# Altium schematic symbol library Atlan.SchLib: 199 symbols
Pins are listed as number, name and electrical type; pins without a type are passive.

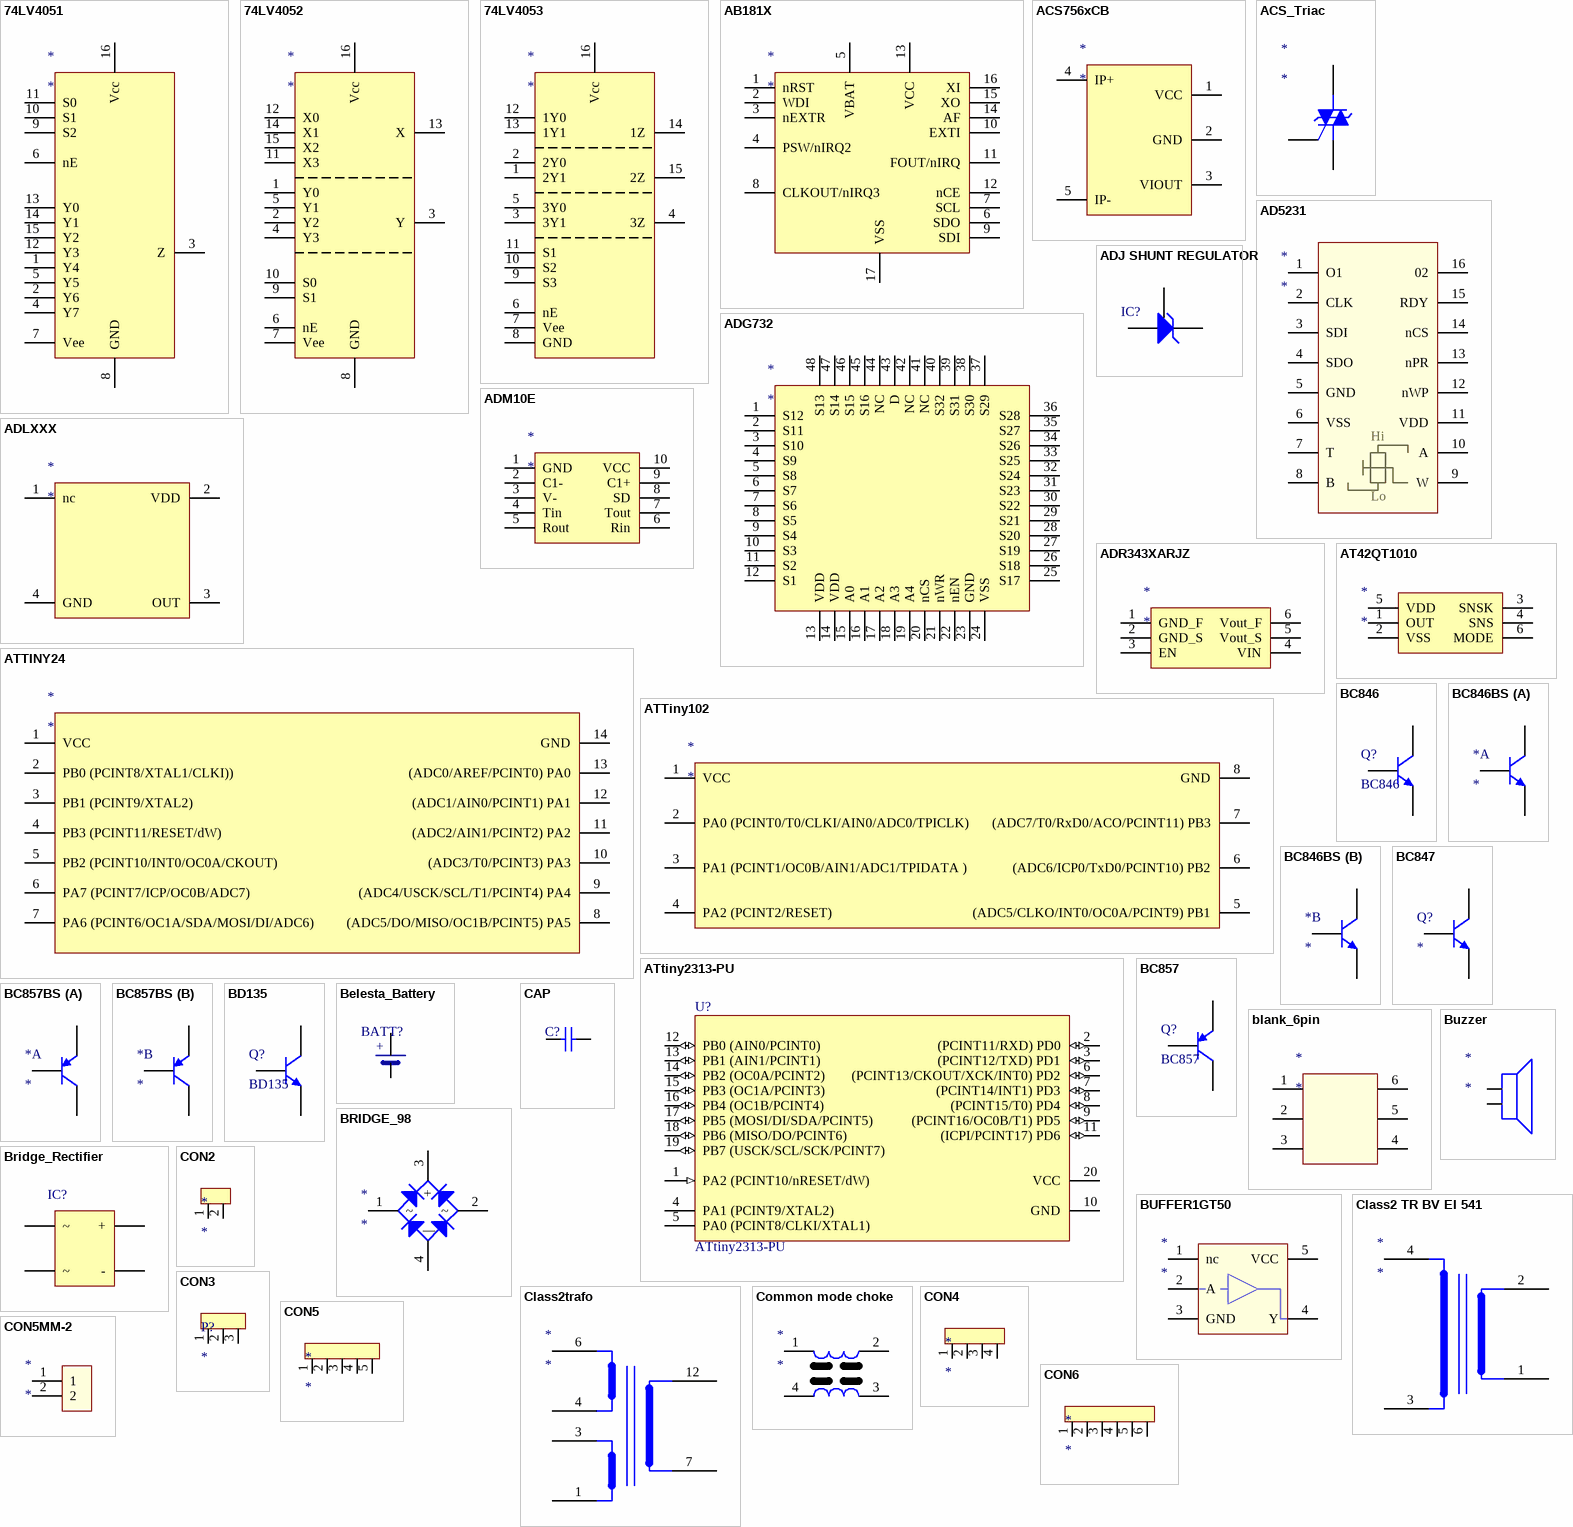
[diagram p0: symbols 74LV4051 to CON6]

## 74LV4051
designator *
footprint TSSOP16
pins: 1 Y4, 2 Y6, 3 Z, 4 Y7, 5 Y5, 6 nE, 7 Vee, 8 GND, 9 S2, 10 S1, 11 S0, 12 Y3, 13 Y0, 14 Y1, 15 Y2, 16 Vcc

## 74LV4052
designator *
footprint TSSOP65P640X120-16N (TSSOP, 16 Leads, Body 5.1x4.5mm (max), Pitch 0.65mm, IPC Medium Density)
pins: 1 Y0, 2 Y2, 3 Y, 4 Y3, 5 Y1, 6 nE, 7 Vee, 8 GND, 9 S1, 10 S0, 11 X3, 12 X0, 13 X, 14 X1, 15 X2, 16 Vcc

## 74LV4053
designator *
footprint TSSOP65P640X120-16N (TSSOP, 16 Leads, Body 5.1x4.5mm (max), Pitch 0.65mm, IPC Medium Density)
pins: 1 2Y1, 2 2Y0, 3 3Y1, 4 3Z, 5 3Y0, 6 nE, 7 Vee, 8 GND, 9 S3, 10 S2, 11 S1, 12 1Y0, 13 1Y1, 14 1Z, 15 2Z, 16 Vcc

## AB181X
designator *
footprint QFN50P300X300X85-16N (QFN, 16-Leads, Body 3,0x3,0mm (max), Pitch 0,50mm, IPC Medium Density)
pins: 1 nRST, 2 WDI, 3 nEXTR, 4 PSW/nIRQ2, 5 VBAT, 6 SDO, 7 SCL, 8 CLKOUT/nIRQ3, 9 SDI, 10 EXTI, 11 FOUT/nIRQ, 12 nCE, 13 VCC, 14 AF, 15 XO, 16 XI, 17 VSS

## ACS756xCB
designator *
footprint CBPPF-5
pins: 1 VCC, 2 GND, 3 VIOUT, 4 IP+, 5 IP-

## ACS_Triac
designator *
footprint TO-220AB
pins: 1 COM, 2 OUT, 3 G

## AD5231
designator *
footprint TSSOP16
pins: 1 O1, 2 CLK, 3 SDI, 4 SDO, 5 GND, 6 VSS, 7 T, 8 B, 9 W, 10 A, 11 VDD, 12 nWP, 13 nPR, 14 nCS, 15 RDY, 16 02
text: Hi; Lo

## ADG732
designator *
footprint TSQFP-48 (TSQFP, 48-Leads, Body 9,0x9,0mm (max), Pitch 0,50mm, IPC Medium Density)
pins: 1 S12, 2 S11, 3 S10, 4 S9, 5 S8, 6 S7, 7 S6, 8 S5, 9 S4, 10 S3, 11 S2, 12 S1, 13 VDD, 14 VDD, 15 A0, 16 A1, 17 A2, 18 A3, 19 A4, 20 nCS, 21 nWR, 22 nEN, 23 GND, 24 VSS, 25 S17, 26 S18, 27 S19, 28 S20, 29 S21, 30 S22, 31 S23, 32 S24, 33 S25, 34 S26, 35 S27, 36 S28, 37 S29, 38 S30, 39 S31, 40 S32, 41 NC, 42 NC, 43 D, 44 NC, 45 S16, 46 S15, 47 S14, 48 S13

## ADJ SHUNT REGULATOR
designator IC?
footprint SOT-23; pin to pad 1>3 3>1
pins: 1 A, 2 REF, 3 K

## ADLXXX
designator *
footprint ULLGA4
pins: 1 nc, 2 VDD, 3 OUT, 4 GND

## ADM10E
designator *
footprint MSOP10
pins: 1 GND, 2 C1-, 3 V-, 4 Tin, 5 Rout, 6 Rin, 7 Tout, 8 SD, 9 C1+, 10 VCC

## ADR343XARJZ
designator *
footprint SMD_SOT23-6
pins: 1 GND_F, 2 GND_S, 3 EN, 4 VIN, 5 Vout_S, 6 Vout_F

## AT42QT1010
designator *
footprint SOT23-6
pins: 1 OUT, 2 VSS, 3 SNSK, 4 SNS, 5 VDD, 6 MODE

## ATTINY24
designator *
footprint DIP-14 (DIP, 14-Pin, Row Spacing 7.62 mm, Pitch 2.54 mm)
pins: 1 VCC, 2 PB0 (PCINT8/XTAL1/CLKI)), 3 PB1 (PCINT9/XTAL2), 4 PB3 (PCINT11/RESET/dW), 5 PB2 (PCINT10/INT0/OC0A/CKOUT), 6 PA7 (PCINT7/ICP/OC0B/ADC7), 7 PA6 (PCINT6/OC1A/SDA/MOSI/DI/ADC6), 8 (ADC5/DO/MISO/OC1B/PCINT5) PA5, 9 (ADC4/USCK/SCL/T1/PCINT4) PA4, 10 (ADC3/T0/PCINT3) PA3, 11 (ADC2/AIN1/PCINT2) PA2, 12 (ADC1/AIN0/PCINT1) PA1, 13 (ADC0/AREF/PCINT0) PA0, 14 GND

## ATTiny102
designator *
footprint SO8
pins: 1 VCC, 2 PA0 (PCINT0/T0/CLKI/AIN0/ADC0/TPICLK), 3 PA1 (PCINT1/OC0B/AIN1/ADC1/TPIDATA ), 4 PA2 (PCINT2/RESET), 5 (ADC5/CLKO/INT0/OC0A/PCINT9) PB1, 6 (ADC6/ICP0/TxD0/PCINT10) PB2, 7 (ADC7/T0/RxD0/ACO/PCINT11) PB3, 8 GND

## ATtiny2313-PU
designator U?
footprint 20S_N (SOIC, 20-Leads, Body 12.8x7.5mm, Pitch 1.27mm, IPC Medium Density)
footprint 20S_L (Footprint not found)
footprint 20S_M (SOIC, 20-Leads, Body 12.8x7.5mm, Pitch 1.27mm, IPC Low Density)
3D model 20S (PCB3D Model)
pins: 1 PA2 (PCINT10/nRESET/dW) (in), 2 (PCINT11/RXD) PD0 (io), 3 (PCINT12/TXD) PD1 (io), 4 PA1 (PCINT9/XTAL2), 5 PA0 (PCINT8/CLKI/XTAL1), 6 (PCINT13/CKOUT/XCK/INT0) PD2 (io), 7 (PCINT14/INT1) PD3 (io), 8 (PCINT15/T0) PD4 (io), 9 (PCINT16/OC0B/T1) PD5 (io), 10 GND (power), 11 (ICPI/PCINT17) PD6 (io), 12 PB0 (AIN0/PCINT0) (io), 13 PB1 (AIN1/PCINT1) (io), 14 PB2 (OC0A/PCINT2) (io), 15 PB3 (OC1A/PCINT3) (io), 16 PB4 (OC1B/PCINT4) (io), 17 PB5 (MOSI/DI/SDA/PCINT5) (io), 18 PB6 (MISO/DO/PCINT6) (io), 19 PB7 (USCK/SCL/SCK/PCINT7) (io), 20 VCC (power)

## BC846
designator Q?
Bipolar (BJT) Single Transistor, General Purpose, NPN, 65 V, 100 MHz, 250 mW, 100 mA, 110 hFE; value: BC846; partnumber: *; properties: Bipolar (BJT) Single Transistor, General Purpose, NPN, 65 V, 100 MHz, 250 mW, 100 mA, 110 hFE; manufacturer: *; farnellCode: *
footprint SOT-23
pins: 1 B, 2 E, 3 C

## BC846BS
designator *
footprint SOT363 (Small outline 2.1mm L x 1.25mm W x 1mm H)
part A pins: 1 E, 2 B, 6 C
part B pins: 3 C, 4 E, 5 B

## BC847
designator Q?
NPN
footprint SOT-23
pins: 1 B, 2 E, 3 C

## BC857
designator Q?
PNP; value: BC857; partnumber: *; properties: *; manufacturer: *; farnellCode: *
footprint SOT-23
pins: 1 B, 2 E, 3 C

## BC857BS
designator *
footprint SOT-363
part A pins: 1 E, 2 B, 6 C
part B pins: 3 C, 4 E, 5 B

## BD135
designator Q?
manufacturer: MULTICOMP; properties: Bipolar (BJT) Single Transistor, General Purpose, NPN, 45 V, 12.5 W, 1 A, 40 hFE; value: BD135; partnumber: BD135; farnellCode: 1574347
footprint TO-225
pins: 1 E, 2 C, 3 B

## Belesta_Battery
designator BATT?
manufacturer: EEMB
footprint BELESTA_BATTERY
pins: 1 +, 2 +

## blank_6pin
designator *
pins: 1, 2, 3, 4, 5, 6

## BRIDGE_98
designator *
footprint BRIDGE_98 (Bridge)
footprint Bridge30x20
footprint KBP-4
pins: 1 ~, 2 ~, 3 +, 4 |

## Bridge_Rectifier
designator IC?
Bridge Rectifier; farnellCode: *
footprint BRIDGE_GBU
pins: 1 + (power), 2 ~ (power), 3 ~ (power), 4 - (power)

## BUFFER1GT50
designator *
footprint SOT23-5
pins: 1 nc, 2 A, 3 GND, 4 Y, 5 VCC

## Buzzer
designator *
footprint BUZZER_MCKPX-G1205A-3700
pins: 1, 2

## CAP
designator C?
Capacitor; properties: capacitor; farnellCode: *
footprint SMD_RC0402
footprint SMD_RC0603
footprint SMD_RC0805
footprint SMD_RC1210
footprint SMD_RC1206
footprint CAP_F_15.24mm
footprint PX2CAP37.5
pins: 1, 2

## Class2 TR BV EI 541
designator *
footprint BV EI 541
pins: 1, 2, 3, 4

## Class2trafo
designator *
footprint TRAFOCLASS2
pins: 1, 3, 4, 6, 7, 12

## Common mode choke
designator *
footprint ChokeTHT (common mode choke)
pins: 1, 2, 3, 4

## CON2
designator *
footprint WAGO2PIN
footprint BATCON2
footprint XHP-2
footprint WR-MPC4-2 (Connector WR-MPC4 Series)
footprint CTB932HD-2
pins: 1, 2

## CON3
designator P?
value: *; partnumber: *; propertis: *; manufacturer: *
footprint XA3PIN
footprint WAGO3PIN
footprint XHP-3
footprint SR_BTS-3
footprint CON_TERMINAL_BLOCK_3WAY (Wire-To-Board Terminal Block, 5.08 mm, 3 Ways, 26 AWG, 12 AWG, Screw)
pins: 1, 2, 3

## CON4
designator *
footprint XA4PIN
footprint EDGECON2
footprint XHP-4
footprint WR-MPC4-4 (Connector WR-MPC4 Series)
footprint CTB932HD-4
footprint ZR-SM4A
footprint S4B-XH-A (Side entry connector)
pins: 1, 2, 3, 4

## CON5
designator *
footprint XA5PIN
footprint WAGO5PIN
footprint XHP-5
footprint CTB932HD-5
footprint S5B-ZR
pins: 1, 2, 3, 4, 5

## CON5MM-2
designator *
footprint CON5MM-2
pins: 1, 2

## CON6
designator *
footprint XA6PIN
footprint EDGECON_3
footprint XHP-6
footprint 2DG066
footprint WR-MPC4-6 (Connector WR-MPC4 Series)
pins: 1, 2, 3, 4, 5, 6

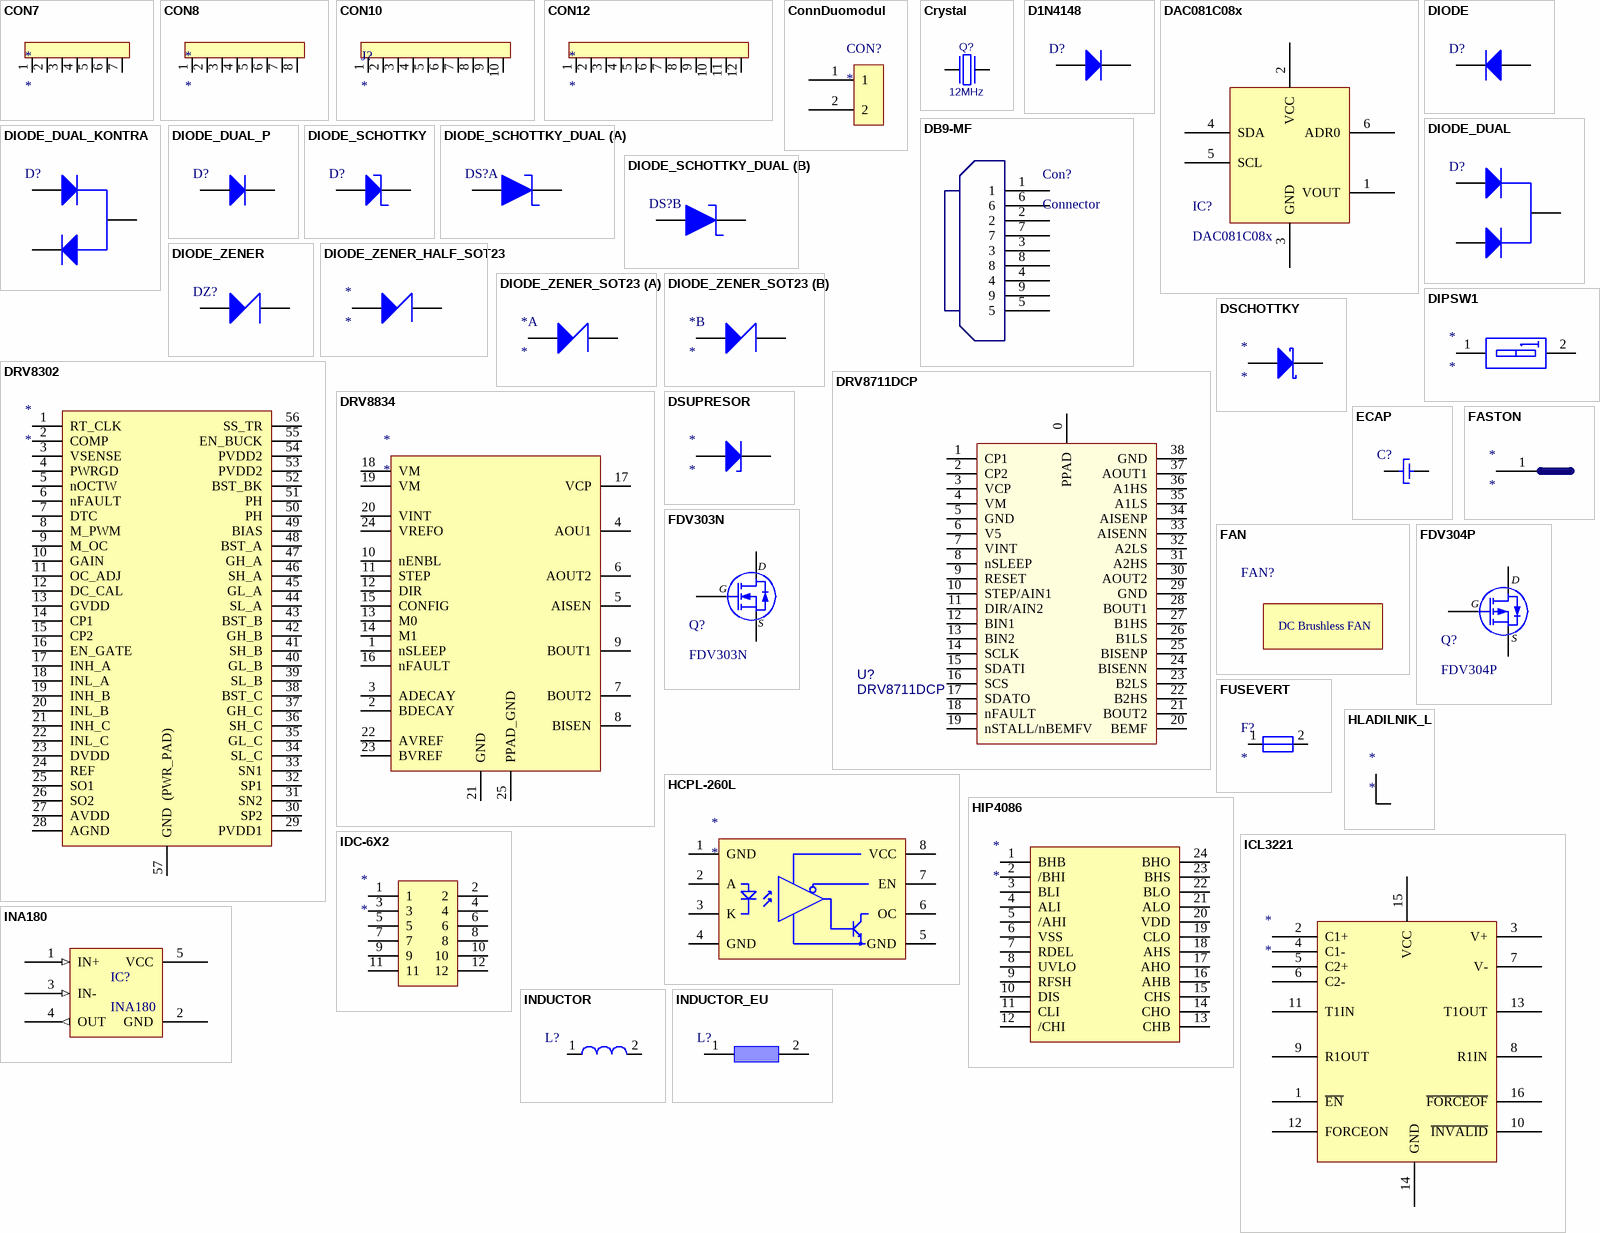
[diagram p1: symbols CON7 to INDUCTOR_EU]

## CON7
designator *
footprint XHP-7
pins: 1, 2, 3, 4, 5, 6, 7

## CON8
designator *
footprint XA8PIN
footprint XHP-8
pins: 1, 2, 3, 4, 5, 6, 7, 8

## CON10
designator J?
value: *; partnumber: *; properties: *; manufacturer: *; farnellCode: *
footprint XHP-10
footprint WR-MPC4-10 (Connector WR-MPC4 Series)
footprint CON_PHONEX_10_WAY
pins: 1, 2, 3, 4, 5, 6, 7, 8, 9, 10

## CON12
designator *
footprint WR-MPC4-12 (Connector WR-MPC4 Series)
footprint CTB932HD-12
pins: 1, 2, 3, 4, 5, 6, 7, 8, 9, 10, 11, 12

## ConnDuomodul
designator CON?
Connector
footprint ConRas254
pins: 1, 2

## Crystal
designator Q?, comment 12MHz
Crystal; Value: 12MHz
footprint Crystal_HC49 (Crystall SMD short HC49)
footprint Crystal_THT_small_lying_down
footprint Crystal_THT_short (Crystal short THT)
footprint Crystal_THT_tall (Crystal tall THT)
footprint QABM3
pins: 1, 2

## D1N4148
designator D?
Diode
footprint MICROMELF (Diode)
footprint DO-214AC (Diode)
pins: 1 K, 2 A

## DAC081C08x
designator IC?
8-Bit DAC; value: DAC081C08x; partnumber: *
footprint SOT23-6
pins: 1 VOUT (power), 2 VCC (power), 3 GND (power), 4 SDA (oc), 5 SCL (oc), 6 ADR0

## DB9-MF
designator Con?, comment Connector
footprint DB9-F
footprint DB9-M
pins: 1, 2, 3, 4, 5, 6, 7, 8, 9

## DIODE
designator D?
farnellCode: *
footprint DO-213AB (MELF Diode, 2-Leads, Body 6,0x2,5mm, IPC Medium Density)
footprint Diode, NSR1020MW2T1G
footprint DO-213AB (MELF Diode, 2-Leads, Body 6,0x2,5mm, IPC Medium Density)
footprint DO-214AA (JEDEC DO214 variation AA. SMB)
footprint DO-214AB (JEDEC DO214 variation AB. SMC)
footprint DO-214AC (Diode)
footprint DO-214AC - duplicate (JEDEC DO214 variation AC. SMA)
footprint DIODE_VERT
footprint DPAK
pins: 1, 2

## DIODE_DUAL
designator D?
footprint TO-263
footprint SOT-23; pin to pad 2>3 3>2
pins: 1, 2, 3

## DIODE_DUAL_KONTRA
designator D?
footprint TO-263
footprint SOT-23; pin to pad 2>3 3>2
pins: 1, 2, 3

## DIODE_DUAL_P
designator D?
footprint TO-263
footprint TO-263AB
footprint TO-263AB2PIN
pins: 1, 2, 3

## DIODE_SCHOTTKY
designator D?
footprint DO-214AA (JEDEC DO214 variation AA. SMB)
pins: 1 K, 2 A

## DIODE_SCHOTTKY_DUAL
designator DS?
footprint SOT-23
part A pins: 1 K, 3 A
part B pins: 2 K, 3 A

## DIODE_ZENER
designator DZ?
footprint Diode, NSR1020MW2T1G
footprint DO-214AA (JEDEC DO214 variation AA. SMB)
footprint DO-214AB (JEDEC DO214 variation AB. SMC)
footprint DO-214AC - duplicate (JEDEC DO214 variation AC. SMA)
pins: 1 K, 2 A

## DIODE_ZENER_HALF_SOT23
designator *
footprint SOT-23
pins: 1 K, 3 A

## DIODE_ZENER_SOT23
designator *
footprint SOT-23
part A pins: 1 K, 3 A
part B pins: 2 K, 3 A

## DIPSW1
designator *
footprint DIPSW1
pins: 1 A1, 2 B1

## DRV8302
designator *
footprint HTSSOP-56 (TSSOP, 56-Leads, Body 14,1x6,2mm (max), Pitch 0,50mm, IPC Medium Density)
pins: 1 RT_CLK, 2 COMP, 3 VSENSE, 4 PWRGD, 5 nOCTW, 6 nFAULT, 7 DTC, 8 M_PWM, 9 M_OC, 10 GAIN, 11 OC_ADJ, 12 DC_CAL, 13 GVDD, 14 CP1, 15 CP2, 16 EN_GATE, 17 INH_A, 18 INL_A, 19 INH_B, 20 INL_B, 21 INH_C, 22 INL_C, 23 DVDD, 24 REF, 25 SO1, 26 SO2, 27 AVDD, 28 AGND, 29 PVDD1, 30 SP2, 31 SN2, 32 SP1, 33 SN1, 34 SL_C, 35 GL_C, 36 SH_C, 37 GH_C, 38 BST_C, 39 SL_B, 40 GL_B, 41 SH_B, 42 GH_B, 43 BST_B, 44 SL_A, 45 GL_A, 46 SH_A, 47 GH_A, 48 BST_A, 49 BIAS, 50 PH, 51 PH, 52 BST_BK, 53 PVDD2, 54 PVDD2, 55 EN_BUCK, 56 SS_TR, 57 GND  (PWR_PAD)

## DRV8711DCP
designator U?
Stepper Motor Pre-Driver with On-Chip 1/256 Micro-Stepping Indexer and Stall Detect; Manufacturer: Texas Instruments; SymbolCreator: a0273408; CompType: Used in some BOM reports.  Useful for finding later.; U/M: EA, IN, or GM; SymbolVersion: 2013-07-23; MountType: SMT; RoHS: Y; PartNumber: DRV8711DCP; PackageReference: DCP; ComponentLink1Description: Datasheet Link; Alternate PartNumber: -; Alternate Manufacturer: -
footprint R-PDSO-G38 (PowerPAD Plastic Small-Outline Package)
pins: 0 PPAD, 1 CP1, 2 CP2, 3 VCP, 4 VM, 5 GND, 6 V5, 7 VINT, 8 nSLEEP, 9 RESET, 10 STEP/AIN1, 11 DIR/AIN2, 12 BIN1, 13 BIN2, 14 SCLK, 15 SDATI, 16 SCS, 17 SDATO, 18 nFAULT, 19 nSTALL/nBEMFV, 20 BEMF, 21 BOUT2, 22 B2HS, 23 B2LS, 24 BISENN, 25 BISENP, 26 B1LS, 27 B1HS, 28 BOUT1, 29 GND, 30 AOUT2, 31 A2HS, 32 A2LS, 33 AISENN, 34 AISENP, 35 A1LS, 36 A1HS, 37 AOUT1, 38 GND

## DRV8834
designator *
footprint HTSSOP24 (IC)
pins: 1 nSLEEP, 2 BDECAY, 3 ADECAY, 4 AOU1, 5 AISEN, 6 AOUT2, 7 BOUT2, 8 BISEN, 9 BOUT1, 10 nENBL, 11 STEP, 12 DIR, 13 M0, 14 M1, 15 CONFIG, 16 nFAULT, 17 VCP, 18 VM, 19 VM, 20 VINT, 21 GND, 22 AVREF, 23 BVREF, 24 VREFO, 25 PPAD_GND

## DSCHOTTKY
designator *
footprint SMBC
footprint SMB50
footprint DO-214AA (JEDEC DO214 variation AA. SMB)
footprint DO-214AC - duplicate (JEDEC DO214 variation AC. SMA)
footprint TO-277A
footprint POWERFLAT33
pins: 1 K, 2 A

## DSUPRESOR
designator *
footprint SMB50
footprint DO-214AA (JEDEC DO214 variation AA. SMB)
pins: 1, 2

## ECAP
designator C?
footprint ECAP10X5 (Elcap)
footprint ECAP10X5 (Elcap)
footprint ECAP_5x11 Vertical (Elcap)
footprint ECAP8X5 (Elcap)
footprint ECAP_ELEC_SIZE_E (Capacitor, polarized, aluminum can; 8.0x6.2mm DxH)
footprint CAPCASE-V
footprint CAPAL120X5
footprint CAPAL80X3
footprint ECAP6.3X2.5 (Elcap)
pins: 1, 2

## FAN
designator FAN?
DC Brushless Fan
text: DC Brushless FAN

## FASTON
designator *
footprint FASTON_4.8x0.8
pins: 1

## FDV303N
designator Q?
N-Channel MOSFET; manufacturer: ON SEMICONDUCTOR; properties: MOSFET Transistor, N Channel, 680 mA, 25 V, 0.33 ohm, 4.5 V, 800 mV; value: FDV303N; partnumber: FDV303N
footprint SOT-23
pins: 1 G, 2 S, 3 D

## FDV304P
designator Q?
P-Channel MOSFET; manufacturer: ON SEMICONDUCTOR; properties: MOSFET Transistor, P Channel, -460 mA, -25 V, 1.22 ohm, 2.7 V, -860 mV; value: FDV304P; partnumber: FDV304P
footprint SOT-23
pins: 1 G, 2 S, 3 D

## FUSEVERT
designator F?
FUSE
footprint FUSEVERT
footprint FUSE_USI_1206
footprint FUSEPCB (F?)
footprint FUSEEXT
footprint MINIFHOLD (Mini fuse holder)
footprint OMNIBLOCK
pins: 1, 2

## HCPL-260L
designator *
footprint SO8
pins: 1 GND, 2 A, 3 K, 4 GND, 5 GND, 6 OC, 7 EN, 8 VCC

## HIP4086
designator *
footprint SOIC-24W (SOIC, 24-Leads, Body 15.4x7.5mm, Pitch 1.27mm, IPC High Density)
pins: 1 BHB, 2 /BHI, 3 BLI, 4 ALI, 5 /AHI, 6 VSS, 7 RDEL, 8 UVLO, 9 RFSH, 10 DIS, 11 CLI, 12 /CHI, 13 CHB, 14 CHO, 15 CHS, 16 AHB, 17 AHO, 18 AHS, 19 CLO, 20 VDD, 21 ALO, 22 BLO, 23 BHS, 24 BHO

## HLADILNIK_L
designator *
footprint HLADILNIK_L

## ICL3221
designator *
footprint TSSOP16
pins: 1 ~{EN}, 2 C1+, 3 V+, 4 C1-, 5 C2+, 6 C2-, 7 V-, 8 R1IN, 9 R1OUT, 10 ~{INVALID}, 11 T1IN, 12 FORCEON, 13 T1OUT, 14 GND, 15 VCC, 16 ~{FORCEOF}

## IDC-6X2
designator *
footprint IDC-6X2
pins: 1, 2, 3, 4, 5, 6, 7, 8, 9, 10, 11, 12

## INA180
designator IC?
Current sense amplifier; value: INA180
footprint SOT23-5
pins: 1 IN+ (in), 2 GND (power), 3 IN- (in), 4 OUT (out), 5 VCC (power)

## INDUCTOR
designator L?
footprint LCM45
footprint L_7.6mm x 7.6mm
footprint Induct_200 (Inductor)
footprint IND_LPS3314 (Inductor)
footprint IND322522 (Inductor)
footprint SDR1006
footprint SDR0302
footprint MSS1038
footprint SRR1208
footprint SMD_RC0603
footprint SMD_RC0805
footprint SMD_RC1206
footprint SRN8040
footprint IND_SRR4038 (Shielded Power Inductor, Body 4.8x4.8x3.8mm)
footprint SRU1048
footprint SRU1048
footprint WE-TPC
footprint SDR0805
footprint SRR1206
pins: 1, 2

## INDUCTOR_EU
designator L?
footprint LCM45
footprint L_7.6mm x 7.6mm
footprint Induct_200 (Inductor)
footprint IND_LPS3314 (Inductor)
footprint IND322522 (Inductor)
footprint SDR1006
footprint SDR0302
footprint MSS1038
footprint SRR1208
footprint SMD_RC0603
footprint SMD_RC0805
footprint SMD_RC1206
footprint SRN8040
footprint IND_SRR4038 (Shielded Power Inductor, Body 4.8x4.8x3.8mm)
footprint SRU1048
footprint SRU1048
footprint WE-TPC
footprint SDR0805
footprint SRR1206
pins: 1, 2

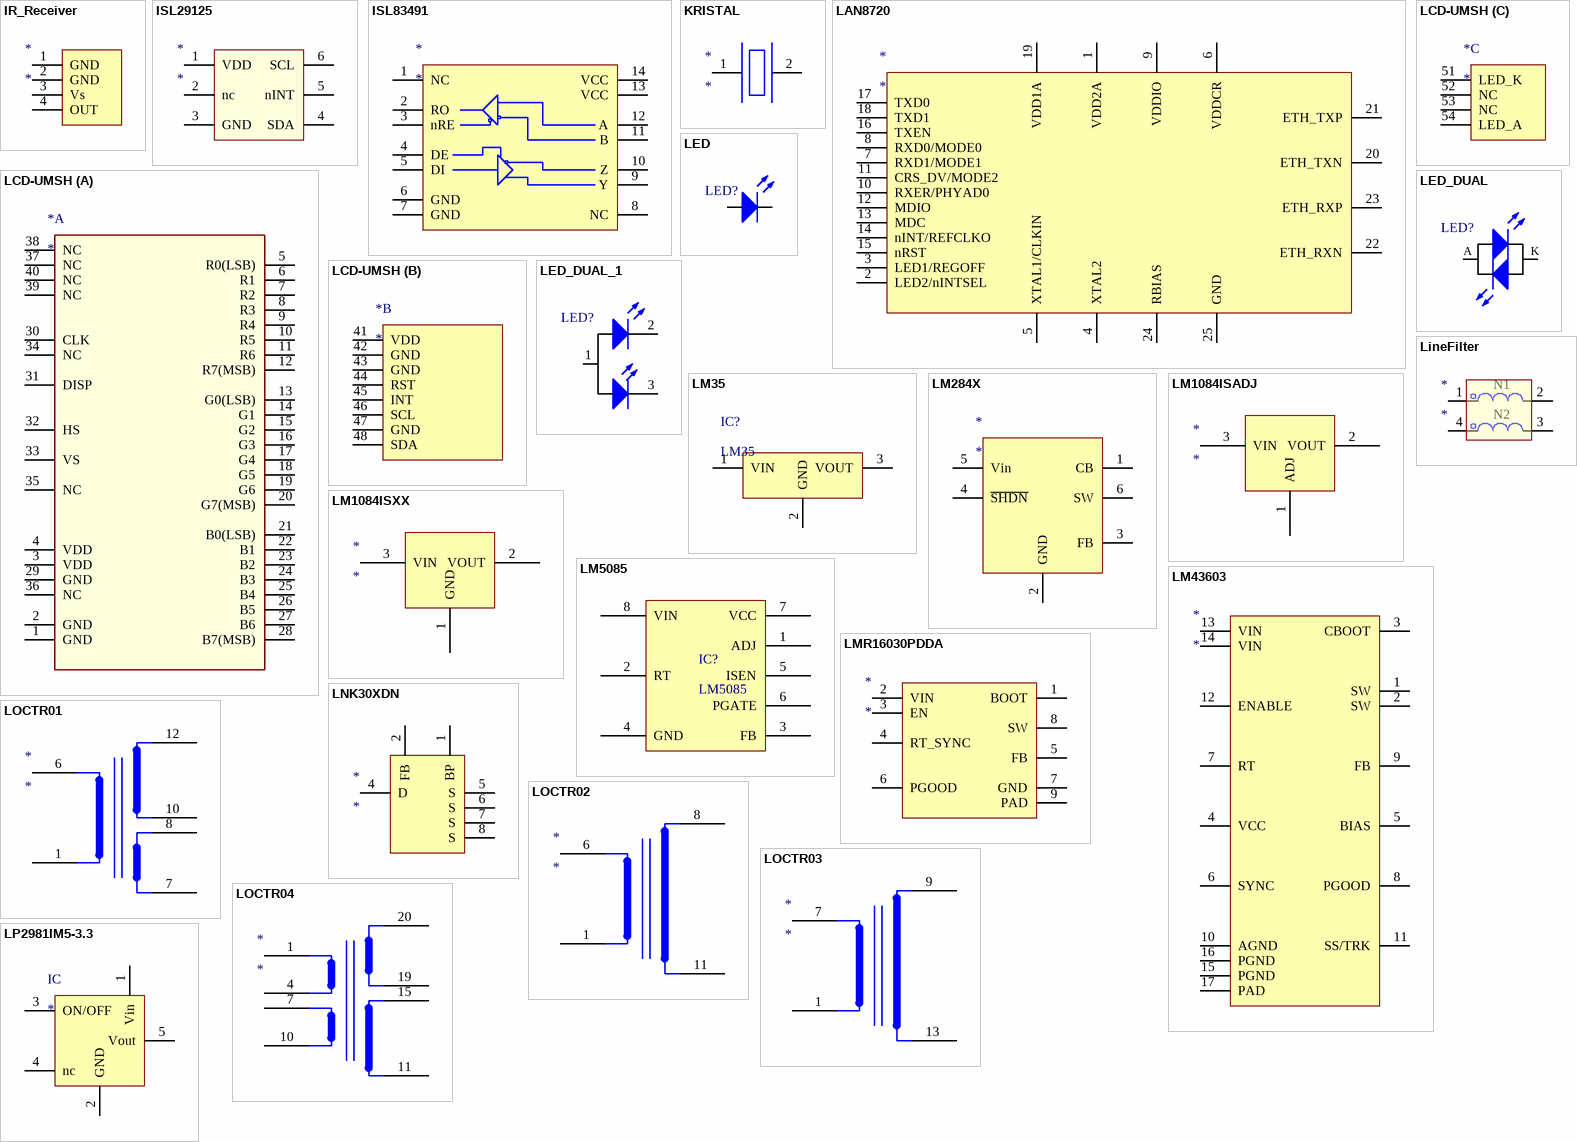
[diagram p2: symbols IR_Receiver to LP2981IM5-3.3]

## IR_Receiver
designator *
footprint PANHED
pins: 1 GND, 2 GND, 3 Vs, 4 OUT

## ISL29125
designator *
footprint ODFN-6
pins: 1 VDD, 2 nc, 3 GND, 4 SDA, 5 nINT, 6 SCL

## ISL83491
designator *
footprint SOIC127P780X200-14N (SOIC, 14 Leads, Body 10.5x5.3mm, Pitch 1.27mm, IPC Medium Density)
pins: 1 NC, 2 RO, 3 nRE, 4 DE, 5 DI, 6 GND, 7 GND, 8 NC, 9 Y, 10 Z, 11 B, 12 A, 13 VCC, 14 VCC

## KRISTAL
designator *
footprint MICROCRISTAL
footprint QABM3
footprint ABM03 (Q?)
pins: 1, 2

## LAN8720
designator *
footprint QFN50P400X400X80-25N (QFN, 24-Leads with exposed die pad, Body 4.05x4.05mm (max), Pitch 0.50mm, IPC Medium Density)
pins: 1 VDD2A, 2 LED2/nINTSEL, 3 LED1/REGOFF, 4 XTAL2, 5 XTAL1/CLKIN, 6 VDDCR, 7 RXD1/MODE1, 8 RXD0/MODE0, 9 VDDIO, 10 RXER/PHYAD0, 11 CRS_DV/MODE2, 12 MDIO, 13 MDC, 14 nINT/REFCLKO, 15 nRST, 16 TXEN, 17 TXD0, 18 TXD1, 19 VDD1A, 20 ETH_TXN, 21 ETH_TXP, 22 ETH_RXN, 23 ETH_RXP, 24 RBIAS, 25 GND

## LCD-UMSH
designator *
part A pins: 1 GND (power), 2 GND (power), 3 VDD (power), 4 VDD (power), 5 R0(LSB), 6 R1, 7 R2, 8 R3, 9 R4, 10 R5, 11 R6, 12 R7(MSB), 13 G0(LSB), 14 G1, 15 G2, 16 G3, 17 G4, 18 G5, 19 G6, 20 G7(MSB), 21 B0(LSB), 22 B1, 23 B2, 24 B3, 25 B4, 26 B5, 27 B6, 28 B7(MSB), 29 GND (power), 30 CLK, 31 DISP, 32 HS, 33 VS, 34 NC, 35 NC, 36 NC (power), 37 NC, 38 NC, 39 NC, 40 NC
part B pins: 41 VDD, 42 GND, 43 GND, 44 RST, 45 INT, 46 SCL, 47 GND, 48 SDA
part C pins: 51 LED_K, 52 NC, 53 NC, 54 LED_A

## LED
designator LED?
footprint LED5MM
footprint SMD_LD1206
footprint SMD_LD0603
pins: 1 K, 2 A

## LED_DUAL
designator LED?
footprint LED5MM
footprint SMD_LD1206
footprint LED3mm (Led THT Round 3mm)
pins: 1 K, 2 A

## LED_DUAL_1
designator LED?
footprint LED_1208
pins: 1, 2 1, 3

## LineFilter
designator *
footprint SRF0405
pins: 1, 2, 3, 4
text: N1; N2

## LM35
designator IC?
Analog Temperature Sensor; value: LM35
footprint TO-220AB
pins: 1 VIN, 2 GND, 3 VOUT

## LM284X
designator *
footprint SOT23-6
pins: 1 CB, 2 GND, 3 FB, 4 ~{SHDN}, 5 Vin, 6 SW

## LM1084ISADJ
designator *
footprint TO-263
pins: 1 ADJ, 2 VOUT, 3 VIN

## LM1084ISXX
designator *
footprint TO-263
pins: 1 GND, 2 VOUT, 3 VIN

## LM5085
designator IC?
DC/DC Controller, Constant On-Time, 4.5V to 75V, 1 Output, Buck, 1MHz; partnumber: LM5085MY/NOPB; manufacturer: TEXAS INSTRUMENTS; value: LM5085; propertis: DC/DC Controller, Constant On-Time, 4.5V to 75V, 1 Output, Buck, 1MHz
footprint MSOP8
pins: 1 ADJ, 2 RT, 3 FB, 4 GND, 5 ISEN, 6 PGATE, 7 VCC, 8 VIN

## LM43603
designator *
footprint TSSOP65P640X120-17N (TSSOP, 16 Leads with exposed body pad, Body 5.1x4.5mm (max), Pitch 0.65mm, IPC Medium Density)
pins: 1 SW, 2 SW, 3 CBOOT, 4 VCC, 5 BIAS, 6 SYNC, 7 RT, 8 PGOOD, 9 FB, 10 AGND, 11 SS/TRK, 12 ENABLE, 13 VIN, 14 VIN, 15 PGND, 16 PGND, 17 PAD

## LMR16030PDDA
designator *
footprint SOIC127P600X175-9N (SOIC, 8-Leads with thermal tab, Body 4.9x3.9mm, Pitch 1.27mm, IPC Medium Density)
pins: 1 BOOT, 2 VIN, 3 EN, 4 RT_SYNC, 5 FB, 6 PGOOD, 7 GND, 8 SW, 9 PAD

## LNK30XDN
designator *
footprint SO-8C
pins: 1 BP, 2 FB, 4 D, 5 S, 6 S, 7 S, 8 S

## LOCTR01
designator *
footprint LOCTR12VA
footprint LOCTR12VA_B
pins: 1, 6, 7, 8, 10, 12

## LOCTR02
designator *
footprint EI48/20,5-ZA
pins: 1, 6, 8, 11

## LOCTR03
designator *
footprint DS44304
pins: 1, 7, 9, 13

## LOCTR04
designator *
footprint TRUI39/21 (Transformer)
pins: 1, 4, 7, 10, 11, 15, 19, 20

## LP2981IM5-3.3
designator IC
footprint SOT23-5
pins: 1 Vin, 2 GND, 3 ON/OFF, 4 nc, 5 Vout

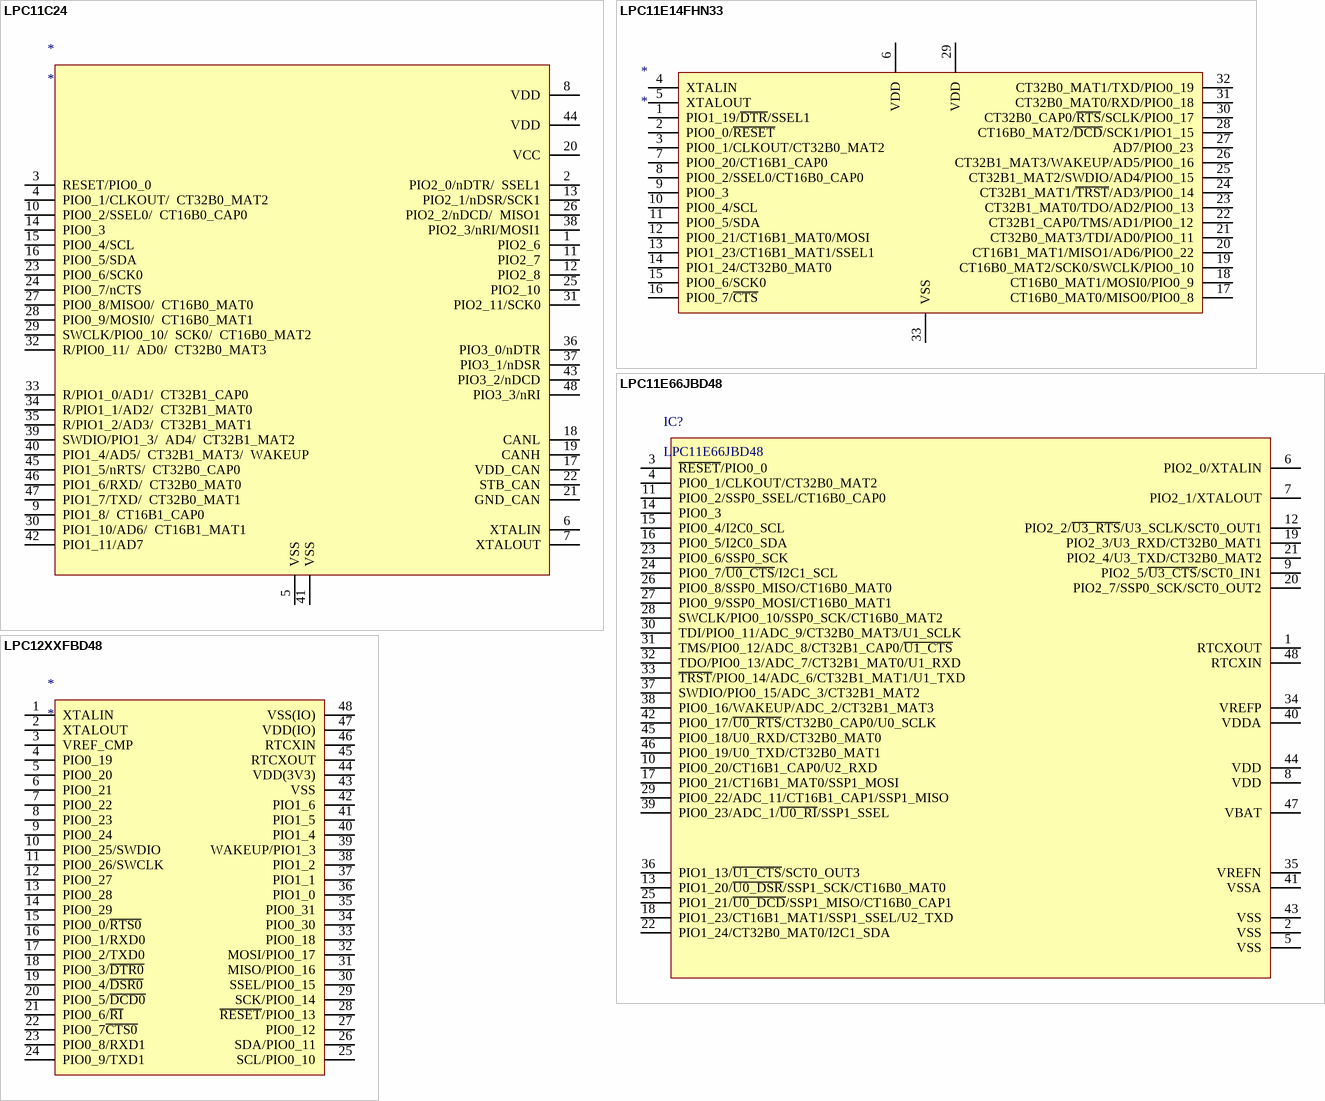
[diagram p3: symbols LPC11C24 to LPC12XXFBD48]

## LPC11C24
designator *
footprint LQFP-48_N (Thin QFP, 48-Leads, Body 7x7mm, Pitch 0.5mm, IPC Medium Density)
pins: 1 PIO2_6, 2 PIO2_0/nDTR/  SSEL1, 3 RESET/PIO0_0, 4 PIO0_1/CLKOUT/  CT32B0_MAT2, 5 VSS, 6 XTALIN, 7 XTALOUT, 8 VDD, 9 PIO1_8/  CT16B1_CAP0, 10 PIO0_2/SSEL0/  CT16B0_CAP0, 11 PIO2_7, 12 PIO2_8, 13 PIO2_1/nDSR/SCK1, 14 PIO0_3, 15 PIO0_4/SCL, 16 PIO0_5/SDA, 17 VDD_CAN, 18 CANL, 19 CANH, 20 VCC, 21 GND_CAN, 22 STB_CAN, 23 PIO0_6/SCK0, 24 PIO0_7/nCTS, 25 PIO2_10, 26 PIO2_2/nDCD/  MISO1, 27 PIO0_8/MISO0/  CT16B0_MAT0, 28 PIO0_9/MOSI0/  CT16B0_MAT1, 29 SWCLK/PIO0_10/  SCK0/  CT16B0_MAT2, 30 PIO1_10/AD6/  CT16B1_MAT1, 31 PIO2_11/SCK0, 32 R/PIO0_11/  AD0/  CT32B0_MAT3, 33 R/PIO1_0/AD1/  CT32B1_CAP0, 34 R/PIO1_1/AD2/  CT32B1_MAT0, 35 R/PIO1_2/AD3/  CT32B1_MAT1, 36 PIO3_0/nDTR, 37 PIO3_1/nDSR, 38 PIO2_3/nRI/MOSI1, 39 SWDIO/PIO1_3/  AD4/  CT32B1_MAT2, 40 PIO1_4/AD5/  CT32B1_MAT3/  WAKEUP, 41 VSS, 42 PIO1_11/AD7, 43 PIO3_2/nDCD, 44 VDD, 45 PIO1_5/nRTS/  CT32B0_CAP0, 46 PIO1_6/RXD/  CT32B0_MAT0, 47 PIO1_7/TXD/  CT32B0_MAT1, 48 PIO3_3/nRI

## LPC11E14FHN33
designator *
footprint HVQFN33 (QFN, 32-Leads, Body 7,1x7,1mm (max), Pitch 0,65mm, IPC Medium Density)
pins: 1 PIO1_19/~{DTR}/SSEL1, 2 PIO0_0/~{RESET} , 3 PIO0_1/CLKOUT/CT32B0_MAT2, 4 XTALIN, 5 XTALOUT, 6 VDD, 7 PIO0_20/CT16B1_CAP0, 8 PIO0_2/SSEL0/CT16B0_CAP0, 9 PIO0_3, 10 PIO0_4/SCL, 11 PIO0_5/SDA, 12 PIO0_21/CT16B1_MAT0/MOSI, 13 PIO1_23/CT16B1_MAT1/SSEL1, 14 PIO1_24/CT32B0_MAT0, 15 PIO0_6/SCK0, 16 PIO0_7/~{CTS}, 17 CT16B0_MAT0/MISO0/PIO0_8, 18 CT16B0_MAT1/MOSI0/PIO0_9, 19 CT16B0_MAT2/SCK0/SWCLK/PIO0_10, 20 CT16B1_MAT1/MISO1/AD6/PIO0_22, 21 CT32B0_MAT3/TDI/AD0/PIO0_11, 22 CT32B1_CAP0/TMS/AD1/PIO0_12, 23 CT32B1_MAT0/TDO/AD2/PIO0_13, 24 CT32B1_MAT1/~{TRST}/AD3/PIO0_14, 25 CT32B1_MAT2/SWDIO/AD4/PIO0_15, 26 CT32B1_MAT3/WAKEUP/AD5/PIO0_16, 27 AD7/PIO0_23, 28 CT16B0_MAT2/~{DCD}/SCK1/PIO1_15, 29 VDD, 30 CT32B0_CAP0/~{RTS}/SCLK/PIO0_17, 31 CT32B0_MAT0/RXD/PIO0_18, 32 CT32B0_MAT1/TXD/PIO0_19, 33 VSS

## LPC11E66JBD48
designator IC?
ARM MCU, LPC Family LPC1100 Series Microcontrollers, ARM Cortex-M0+, 32bit, 50 MHz, 64 KB, 12 KB; partnumber: LPC11E66JBD48E; manufacturer: NXP; value: LPC11E66JBD48; properties: ARM MCU, LPC Family LPC1100 Series Microcontrollers, ARM Cortex-M0+, 32bit, 50 MHz, 64 KB, 12 KB; farnellCode: 2433451
footprint LQFP-48 (TSQFP, 48-Leads, Body 10,4x10,4mm (max), Pitch 0,50mm, IPC Medium Density)
pins: 1 RTCXOUT, 2 VSS, 3 ~{RESET}/PIO0_0, 4 PIO0_1/CLKOUT/CT32B0_MAT2, 5 VSS, 6 PIO2_0/XTALIN, 7 PIO2_1/XTALOUT, 8 VDD, 9 PIO2_5/~{U3_CTS}/SCT0_IN1, 10 PIO0_20/CT16B1_CAP0/U2_RXD, 11 PIO0_2/SSP0_SSEL/CT16B0_CAP0, 12 PIO2_2/~{U3_RTS}/U3_SCLK/SCT0_OUT1, 13 PIO1_20/~{U0_DSR}/SSP1_SCK/CT16B0_MAT0, 14 PIO0_3, 15 PIO0_4/I2C0_SCL, 16 PIO0_5/I2C0_SDA, 17 PIO0_21/CT16B1_MAT0/SSP1_MOSI, 18 PIO1_23/CT16B1_MAT1/SSP1_SSEL/U2_TXD, 19 PIO2_3/U3_RXD/CT32B0_MAT1, 20 PIO2_7/SSP0_SCK/SCT0_OUT2, 21 PIO2_4/U3_TXD/CT32B0_MAT2, 22 PIO1_24/CT32B0_MAT0/I2C1_SDA, 23 PIO0_6/SSP0_SCK, 24 PIO0_7/~{U0_CTS}/I2C1_SCL, 25 PIO1_21/~{U0_DCD}/SSP1_MISO/CT16B0_CAP1, 26 PIO0_8/SSP0_MISO/CT16B0_MAT0, 27 PIO0_9/SSP0_MOSI/CT16B0_MAT1, 28 SWCLK/PIO0_10/SSP0_SCK/CT16B0_MAT2, 29 PIO0_22/ADC_11/CT16B1_CAP1/SSP1_MISO, 30 TDI/PIO0_11/ADC_9/CT32B0_MAT3/U1_SCLK, 31 TMS/PIO0_12/ADC_8/CT32B1_CAP0/~{U1_CTS}, 32 TDO/PIO0_13/ADC_7/CT32B1_MAT0/U1_RXD, 33 ~{TRST}/PIO0_14/ADC_6/CT32B1_MAT1/U1_TXD, 34 VREFP, 35 VREFN, 36 PIO1_13/~{U1_CTS}/SCT0_OUT3, 37 SWDIO/PIO0_15/ADC_3/CT32B1_MAT2, 38 PIO0_16/WAKEUP/ADC_2/CT32B1_MAT3, 39 PIO0_23/ADC_1/~{U0_RI}/SSP1_SSEL, 40 VDDA, 41 VSSA, 42 PIO0_17/~{U0_RTS}/CT32B0_CAP0/U0_SCLK, 43 VSS, 44 VDD, 45 PIO0_18/U0_RXD/CT32B0_MAT0, 46 PIO0_19/U0_TXD/CT32B0_MAT1, 47 VBAT, 48 RTCXIN

## LPC12XXFBD48
designator *
footprint SOT313-2_N (Thin QFP, 48-Leads, Body 7x7mm, Pitch 0.5mm, IPC Medium Density)
pins: 1 XTALIN, 2 XTALOUT, 3 VREF_CMP, 4 PIO0_19, 5 PIO0_20, 6 PIO0_21, 7 PIO0_22, 8 PIO0_23, 9 PIO0_24, 10 PIO0_25/SWDIO, 11 PIO0_26/SWCLK, 12 PIO0_27, 13 PIO0_28, 14 PIO0_29, 15 PIO0_0/~{RTS0}, 16 PIO0_1/RXD0, 17 PIO0_2/TXD0, 18 PIO0_3/~{DTR0}, 19 PIO0_4/~{DSR0}, 20 PIO0_5/~{DCD0}, 21 PIO0_6/~{RI}, 22 PIO0_7~{CTS0}, 23 PIO0_8/RXD1, 24 PIO0_9/TXD1, 25 SCL/PIO0_10, 26 SDA/PIO0_11, 27 PIO0_12, 28 ~{RESET}/PIO0_13, 29 SCK/PIO0_14, 30 SSEL/PIO0_15, 31 MISO/PIO0_16, 32 MOSI/PIO0_17, 33 PIO0_18, 34 PIO0_30, 35 PIO0_31, 36 PIO1_0, 37 PIO1_1, 38 PIO1_2, 39 WAKEUP/PIO1_3, 40 PIO1_4, 41 PIO1_5, 42 PIO1_6, 43 VSS, 44 VDD(3V3), 45 RTCXOUT, 46 RTCXIN, 47 VDD(IO), 48 VSS(IO)

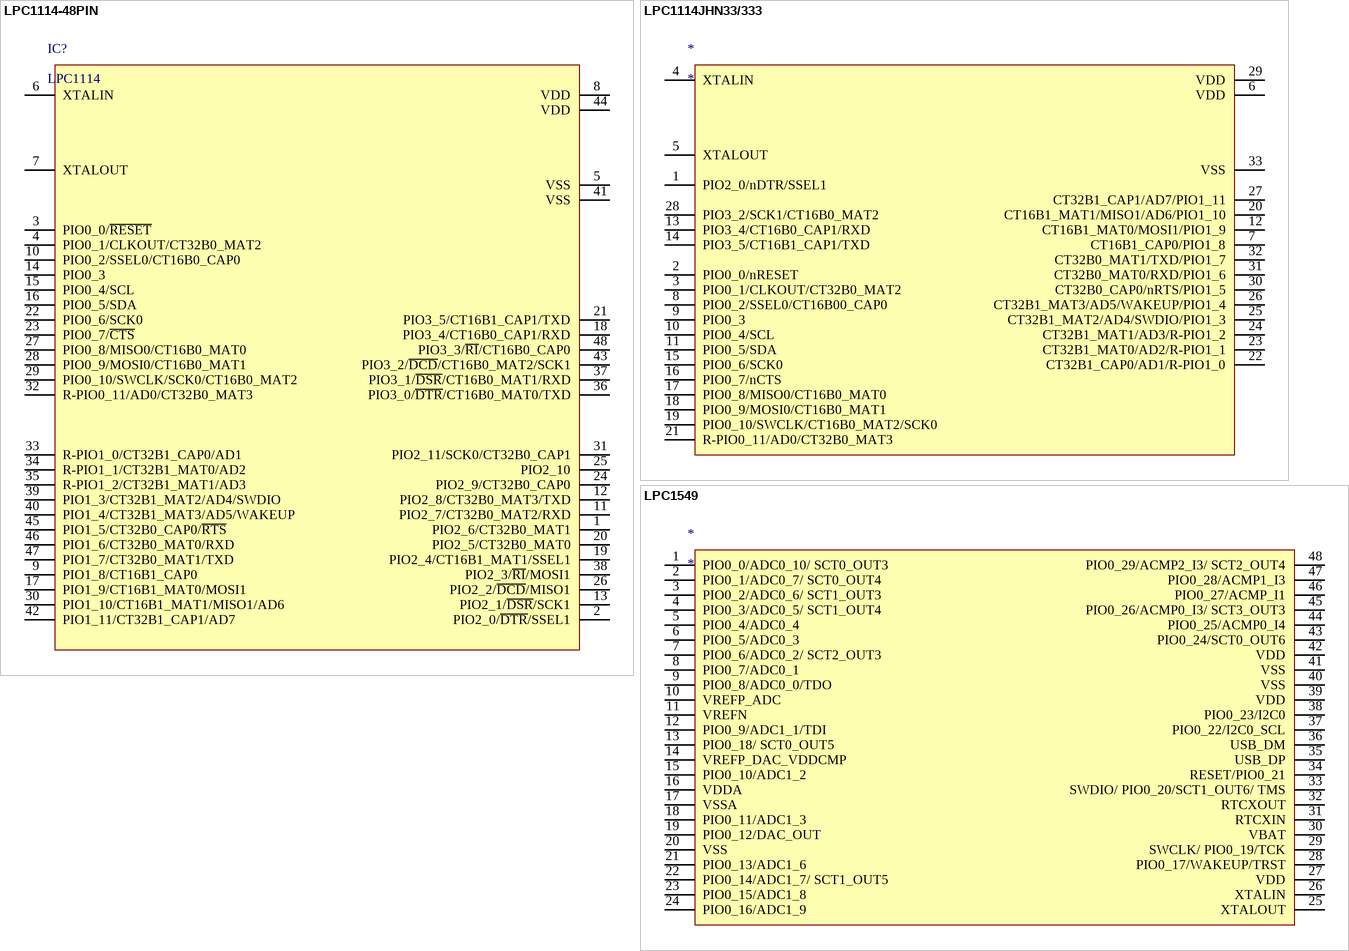
[diagram p4: symbols LPC1114-48PIN to LPC1549]

## LPC1114-48PIN
designator IC?, comment LPC1114
ARM Microcontroller, LPC Family LPC1100 Series Microcontrollers, ARM Cortex-M0, 32bit, 50 MHz; manufacturer: NXP; value: LPC1114
footprint LQFP-48 (TSQFP, 48-Leads, Body 10,4x10,4mm (max), Pitch 0,50mm, IPC Medium Density)
pins: 1 PIO2_6/CT32B0_MAT1, 2 PIO2_0/~{DTR}/SSEL1, 3 PIO0_0/~{RESET}, 4 PIO0_1/CLKOUT/CT32B0_MAT2, 5 VSS, 6 XTALIN, 7 XTALOUT, 8 VDD, 9 PIO1_8/CT16B1_CAP0, 10 PIO0_2/SSEL0/CT16B0_CAP0, 11 PIO2_7/CT32B0_MAT2/RXD, 12 PIO2_8/CT32B0_MAT3/TXD, 13 PIO2_1/~{DSR}/SCK1, 14 PIO0_3, 15 PIO0_4/SCL, 16 PIO0_5/SDA, 17 PIO1_9/CT16B1_MAT0/MOSI1, 18 PIO3_4/CT16B0_CAP1/RXD, 19 PIO2_4/CT16B1_MAT1/SSEL1, 20 PIO2_5/CT32B0_MAT0, 21 PIO3_5/CT16B1_CAP1/TXD, 22 PIO0_6/SCK0, 23 PIO0_7/~{CTS}, 24 PIO2_9/CT32B0_CAP0, 25 PIO2_10, 26 PIO2_2/~{DCD}/MISO1, 27 PIO0_8/MISO0/CT16B0_MAT0, 28 PIO0_9/MOSI0/CT16B0_MAT1, 29 PIO0_10/SWCLK/SCK0/CT16B0_MAT2, 30 PIO1_10/CT16B1_MAT1/MISO1/AD6, 31 PIO2_11/SCK0/CT32B0_CAP1, 32 R-PIO0_11/AD0/CT32B0_MAT3, 33 R-PIO1_0/CT32B1_CAP0/AD1, 34 R-PIO1_1/CT32B1_MAT0/AD2, 35 R-PIO1_2/CT32B1_MAT1/AD3, 36 PIO3_0/~{DTR}/CT16B0_MAT0/TXD, 37 PIO3_1/~{DSR}/CT16B0_MAT1/RXD, 38 PIO2_3/~{RI}/MOSI1, 39 PIO1_3/CT32B1_MAT2/AD4/SWDIO, 40 PIO1_4/CT32B1_MAT3/AD5/WAKEUP, 41 VSS, 42 PIO1_11/CT32B1_CAP1/AD7, 43 PIO3_2/~{DCD}/CT16B0_MAT2/SCK1, 44 VDD, 45 PIO1_5/CT32B0_CAP0/~{RTS}, 46 PIO1_6/CT32B0_MAT0/RXD, 47 PIO1_7/CT32B0_MAT1/TXD, 48 PIO3_3/~{RI}/CT16B0_CAP0

## LPC1114JHN33/333
designator *
footprint QFN65P700X700X100-32N (QFN, 32-Leads, Body 7,1x7,1mm (max), Pitch 0,65mm, IPC Medium Density)
pins: 1 PIO2_0/nDTR/SSEL1, 2 PIO0_0/nRESET, 3 PIO0_1/CLKOUT/CT32B0_MAT2, 4 XTALIN, 5 XTALOUT, 6 VDD, 7 CT16B1_CAP0/PIO1_8, 8 PIO0_2/SSEL0/CT16B00_CAP0, 9 PIO0_3, 10 PIO0_4/SCL, 11 PIO0_5/SDA, 12 CT16B1_MAT0/MOSI1/PIO1_9, 13 PIO3_4/CT16B0_CAP1/RXD, 14 PIO3_5/CT16B1_CAP1/TXD, 15 PIO0_6/SCK0, 16 PIO0_7/nCTS, 17 PIO0_8/MISO0/CT16B0_MAT0, 18 PIO0_9/MOSI0/CT16B0_MAT1, 19 PIO0_10/SWCLK/CT16B0_MAT2/SCK0, 20 CT16B1_MAT1/MISO1/AD6/PIO1_10, 21 R-PIO0_11/AD0/CT32B0_MAT3, 22 CT32B1_CAP0/AD1/R-PIO1_0, 23 CT32B1_MAT0/AD2/R-PIO1_1, 24 CT32B1_MAT1/AD3/R-PIO1_2, 25 CT32B1_MAT2/AD4/SWDIO/PIO1_3, 26 CT32B1_MAT3/AD5/WAKEUP/PIO1_4, 27 CT32B1_CAP1/AD7/PIO1_11, 28 PIO3_2/SCK1/CT16B0_MAT2, 29 VDD, 30 CT32B0_CAP0/nRTS/PIO1_5, 31 CT32B0_MAT0/RXD/PIO1_6, 32 CT32B0_MAT1/TXD/PIO1_7, 33 VSS

## LPC1549
designator *
footprint LQFP-48 (TSQFP, 48-Leads, Body 10,4x10,4mm (max), Pitch 0,50mm, IPC Medium Density)
pins: 1 PIO0_0/ADC0_10/ SCT0_OUT3, 2 PIO0_1/ADC0_7/ SCT0_OUT4, 3 PIO0_2/ADC0_6/ SCT1_OUT3, 4 PIO0_3/ADC0_5/ SCT1_OUT4, 5 PIO0_4/ADC0_4, 6 PIO0_5/ADC0_3, 7 PIO0_6/ADC0_2/ SCT2_OUT3, 8 PIO0_7/ADC0_1, 9 PIO0_8/ADC0_0/TDO, 10 VREFP_ADC, 11 VREFN, 12 PIO0_9/ADC1_1/TDI, 13 PIO0_18/ SCT0_OUT5, 14 VREFP_DAC_VDDCMP, 15 PIO0_10/ADC1_2, 16 VDDA, 17 VSSA, 18 PIO0_11/ADC1_3, 19 PIO0_12/DAC_OUT, 20 VSS, 21 PIO0_13/ADC1_6, 22 PIO0_14/ADC1_7/ SCT1_OUT5, 23 PIO0_15/ADC1_8, 24 PIO0_16/ADC1_9, 25 XTALOUT, 26 XTALIN, 27 VDD, 28 PIO0_17/WAKEUP/TRST, 29 SWCLK/ PIO0_19/TCK, 30 VBAT, 31 RTCXIN, 32 RTCXOUT, 33 SWDIO/ PIO0_20/SCT1_OUT6/ TMS, 34 RESET/PIO0_21, 35 USB_DP, 36 USB_DM, 37 PIO0_22/I2C0_SCL, 38 PIO0_23/I2C0, 39 VDD, 40 VSS, 41 VSS, 42 VDD, 43 PIO0_24/SCT0_OUT6, 44 PIO0_25/ACMP0_I4, 45 PIO0_26/ACMP0_I3/ SCT3_OUT3, 46 PIO0_27/ACMP_I1, 47 PIO0_28/ACMP1_I3, 48 PIO0_29/ACMP2_I3/ SCT2_OUT4

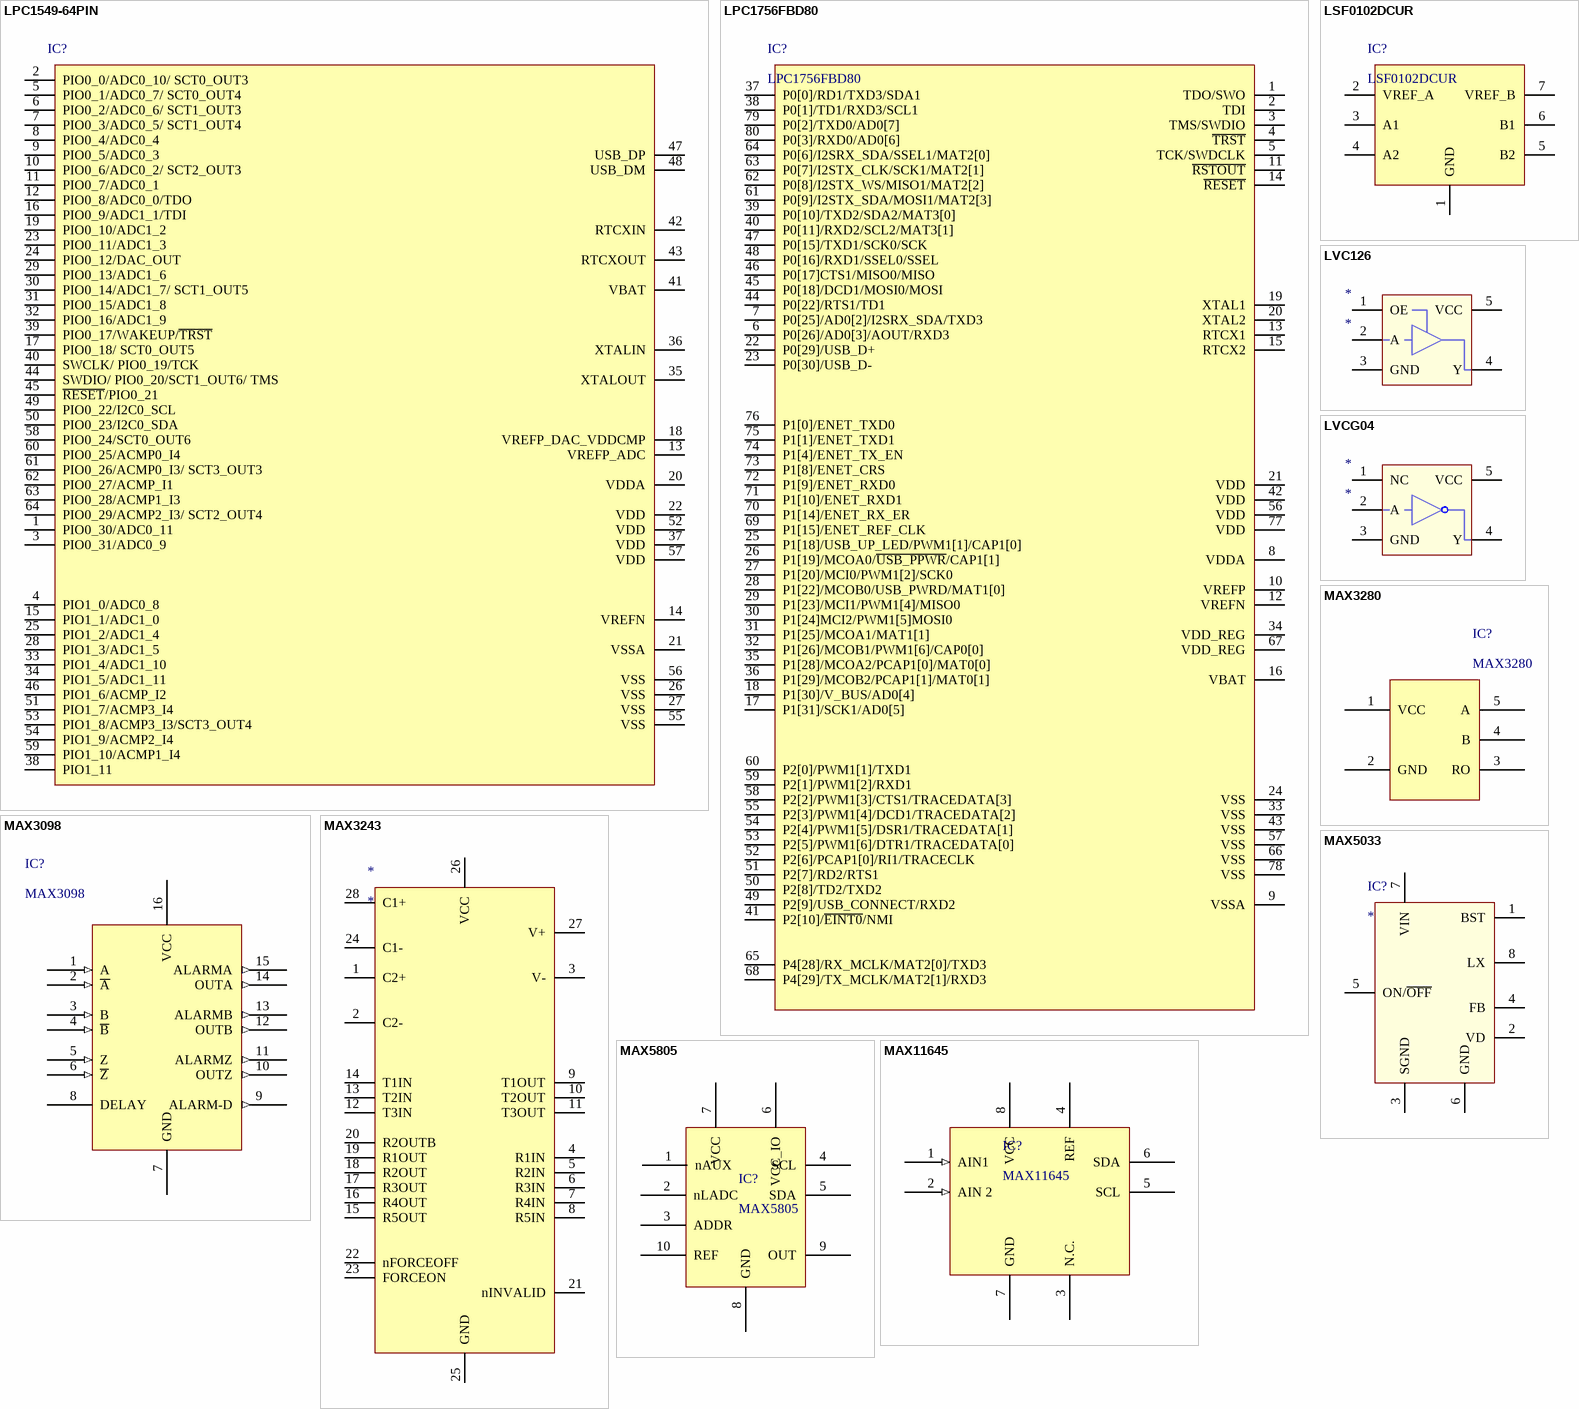
[diagram p5: symbols LPC1549-64PIN to MAX11645]

## LPC1549-64PIN
designator IC?
32-bit ARM Cortex-M3 microcontroller; manufacturer: NXP
footprint LQFP64 (Thin QFP, 64-Leads, Body 10x10mm, Pitch 0.5mm, IPC Medium Density)
pins: 1 PIO0_30/ADC0_11, 2 PIO0_0/ADC0_10/ SCT0_OUT3, 3 PIO0_31/ADC0_9, 4 PIO1_0/ADC0_8, 5 PIO0_1/ADC0_7/ SCT0_OUT4, 6 PIO0_2/ADC0_6/ SCT1_OUT3, 7 PIO0_3/ADC0_5/ SCT1_OUT4, 8 PIO0_4/ADC0_4, 9 PIO0_5/ADC0_3, 10 PIO0_6/ADC0_2/ SCT2_OUT3, 11 PIO0_7/ADC0_1, 12 PIO0_8/ADC0_0/TDO, 13 VREFP_ADC, 14 VREFN, 15 PIO1_1/ADC1_0, 16 PIO0_9/ADC1_1/TDI, 17 PIO0_18/ SCT0_OUT5, 18 VREFP_DAC_VDDCMP, 19 PIO0_10/ADC1_2, 20 VDDA, 21 VSSA, 22 VDD, 23 PIO0_11/ADC1_3, 24 PIO0_12/DAC_OUT, 25 PIO1_2/ADC1_4, 26 VSS, 27 VSS, 28 PIO1_3/ADC1_5, 29 PIO0_13/ADC1_6, 30 PIO0_14/ADC1_7/ SCT1_OUT5, 31 PIO0_15/ADC1_8, 32 PIO0_16/ADC1_9, 33 PIO1_4/ADC1_10, 34 PIO1_5/ADC1_11, 35 XTALOUT, 36 XTALIN, 37 VDD, 38 PIO1_11, 39 PIO0_17/WAKEUP/~{TRST}, 40 SWCLK/ PIO0_19/TCK, 41 VBAT, 42 RTCXIN, 43 RTCXOUT, 44 SWDIO/ PIO0_20/SCT1_OUT6/ TMS, 45 ~{RESET}/PIO0_21, 46 PIO1_6/ACMP_I2, 47 USB_DP, 48 USB_DM, 49 PIO0_22/I2C0_SCL, 50 PIO0_23/I2C0_SDA, 51 PIO1_7/ACMP3_I4, 52 VDD, 53 PIO1_8/ACMP3_I3/SCT3_OUT4, 54 PIO1_9/ACMP2_I4, 55 VSS, 56 VSS, 57 VDD, 58 PIO0_24/SCT0_OUT6, 59 PIO1_10/ACMP1_I4, 60 PIO0_25/ACMP0_I4, 61 PIO0_26/ACMP0_I3/ SCT3_OUT3, 62 PIO0_27/ACMP_I1, 63 PIO0_28/ACMP1_I3, 64 PIO0_29/ACMP2_I3/ SCT2_OUT4

## LPC1756FBD80
designator IC?
manufacturer: NXP; partnumber: LPC1756FBD80,551; properties: Scalable Mainstream 32-bit Microcontroller (MCU) based on ARM Cortex-M3 Core; value: LPC1756FBD80; farnellCode: *
footprint LQFP80 (80-Pin Thin Quad Flat Pack 0.65 mm Pitch, IPC Medium Density)
pins: 1 TDO/SWO, 2 TDI, 3 TMS/SWDIO, 4 ~{TRST}, 5 TCK/SWDCLK, 6 P0[26]/AD0[3]/AOUT/RXD3, 7 P0[25]/AD0[2]/I2SRX_SDA/TXD3, 8 VDDA, 9 VSSA, 10 VREFP, 11 ~{RSTOUT}, 12 VREFN, 13 RTCX1, 14 ~{RESET}, 15 RTCX2, 16 VBAT, 17 P1[31]/SCK1/AD0[5], 18 P1[30]/V_BUS/AD0[4], 19 XTAL1, 20 XTAL2, 21 VDD, 22 P0[29]/USB_D+, 23 P0[30]/USB_D-, 24 VSS, 25 P1[18]/USB_UP_LED/PWM1[1]/CAP1[0], 26 P1[19]/MCOA0/~{USB_PPWR}/CAP1[1], 27 P1[20]/MCI0/PWM1[2]/SCK0, 28 P1[22]/MCOB0/USB_PWRD/MAT1[0], 29 P1[23]/MCI1/PWM1[4]/MISO0, 30 P1[24]MCI2/PWM1[5]MOSI0, 31 P1[25]/MCOA1/MAT1[1], 32 P1[26]/MCOB1/PWM1[6]/CAP0[0], 33 VSS, 34 VDD_REG, 35 P1[28]/MCOA2/PCAP1[0]/MAT0[0], 36 P1[29]/MCOB2/PCAP1[1]/MAT0[1], 37 P0[0]/RD1/TXD3/SDA1, 38 P0[1]/TD1/RXD3/SCL1, 39 P0[10]/TXD2/SDA2/MAT3[0], 40 P0[11]/RXD2/SCL2/MAT3[1], 41 P2[10]/~{EINT0}/NMI, 42 VDD, 43 VSS, 44 P0[22]/RTS1/TD1, 45 P0[18]/DCD1/MOSI0/MOSI, 46 P0[17]CTS1/MISO0/MISO, 47 P0[15]/TXD1/SCK0/SCK, 48 P0[16]/RXD1/SSEL0/SSEL, 49 P2[9]/USB_CONNECT/RXD2, 50 P2[8]/TD2/TXD2, 51 P2[7]/RD2/RTS1, 52 P2[6]/PCAP1[0]/RI1/TRACECLK, 53 P2[5]/PWM1[6]/DTR1/TRACEDATA[0], 54 P2[4]/PWM1[5]/DSR1/TRACEDATA[1], 55 P2[3]/PWM1[4]/DCD1/TRACEDATA[2], 56 VDD, 57 VSS, 58 P2[2]/PWM1[3]/CTS1/TRACEDATA[3], 59 P2[1]/PWM1[2]/RXD1, 60 P2[0]/PWM1[1]/TXD1, 61 P0[9]/I2STX_SDA/MOSI1/MAT2[3], 62 P0[8]/I2STX_WS/MISO1/MAT2[2], 63 P0[7]/I2STX_CLK/SCK1/MAT2[1], 64 P0[6]/I2SRX_SDA/SSEL1/MAT2[0], 65 P4[28]/RX_MCLK/MAT2[0]/TXD3, 66 VSS, 67 VDD_REG, 68 P4[29]/TX_MCLK/MAT2[1]/RXD3, 69 P1[15]/ENET_REF_CLK, 70 P1[14]/ENET_RX_ER, 71 P1[10]/ENET_RXD1, 72 P1[9]/ENET_RXD0, 73 P1[8]/ENET_CRS, 74 P1[4]/ENET_TX_EN, 75 P1[1]/ENET_TXD1, 76 P1[0]/ENET_TXD0, 77 VDD, 78 VSS, 79 P0[2]/TXD0/AD0[7], 80 P0[3]/RXD0/AD0[6]

## LSF0102DCUR
designator IC?
Level Shifter; manufacturer: TEXAS INSTRUMENTS; properties: Voltage Level Translator, 2 Input, 1.3 ns, 0 V to 5 V, VSSOP-8; value: LSF0102DCUR; partnumber: LSF0102DCUR; farnellCode: *
footprint VSSOP-8
pins: 1 GND, 2 VREF_A, 3 A1, 4 A2, 5 B2, 6 B1, 7 VREF_B

## LVC126
designator *
footprint SOT23-5
pins: 1 OE, 2 A, 3 GND, 4 Y, 5 VCC

## LVCG04
designator *
footprint SOT23-5
pins: 1 NC, 2 A, 3 GND, 4 Y, 5 VCC

## MAX3098
designator IC?
Simetrical-Asimetrical encoder converter; manufacturer: MAXIM; value: MAX3098
footprint QSOP-16 (SOP, 16-Leads, Body 4.9x3.9mm, Pitch 0.635mm, IPC Medium Density)
pins: 1 A (in), 2 ~{A} (in), 3 B (in), 4 ~{B} (in), 5 Z (in), 6 ~{Z} (in), 7 GND (power), 8 DELAY, 9 ALARM-D (out), 10 OUTZ (out), 11 ALARMZ (out), 12 OUTB (out), 13 ALARMB (out), 14 OUTA (out), 15 ALARMA (out), 16 VCC (power)

## MAX3243
designator *
footprint SOP65P780X200-28N (SOP, 28 Leads, Body 10.2x5.3mm, Pitch 0.65mm, IPC Medium Density)
pins: 1 C2+, 2 C2-, 3 V-, 4 R1IN, 5 R2IN, 6 R3IN, 7 R4IN, 8 R5IN, 9 T1OUT, 10 T2OUT, 11 T3OUT, 12 T3IN, 13 T2IN, 14 T1IN, 15 R5OUT, 16 R4OUT, 17 R3OUT, 18 R2OUT, 19 R1OUT, 20 R2OUTB, 21 nINVALID, 22 nFORCEOFF, 23 FORCEON, 24 C1-, 25 GND, 26 VCC, 27 V+, 28 C1+

## MAX3280
designator IC?
manufacturer: MAXIM; propertis: Line Receiver RS422, RS485, 3V-5.5V supply, SOT-23-5; value: MAX3280
footprint SOT23-5
pins: 1 VCC (power), 2 GND (power), 3 RO (power), 4 B (power), 5 A (power)

## MAX5033
designator IC?
DC-DC Switching Buck (Step Down) Regulator, Adj., 7.5V-76Vin, 1.25V-13.2V/500mA out, 125 kHz, DIP-8; value: *; partnumber: *; properties: *; manufacturer: *; farnellCode: *
footprint PDIP8 (8-Pin Plastic Dual In-Line Package (PDIP))
pins: 1 BST, 2 VD, 3 SGND, 4 FB, 5 ON/~{OFF}, 6 GND, 7 VIN, 8 LX

## MAX5805
designator IC?
12-bit DAC; manufacturer: MAXIM; propertis: Digital to Analogue Converter, Precision, 12 bit, Bipolar, Unipolar, 2.7V to 5.5V, µMAX, 10 Pins; value: MAX5805
footprint MSOP10
pins: 1 nAUX, 2 nLADC, 3 ADDR, 4 SCL (oc), 5 SDA (oc), 6 VCC_IO, 7 VCC, 8 GND, 9 OUT (oc), 10 REF

## MAX11645
designator IC?
12-bit ADC; manufacturer: MAXIM; propertis: Analogue to Digital Converter, Low Power, 12 bit, 94.4 kSPS, Single, 2.7 V, 3.6 V, µMAX; value: MAX11645
footprint MSOP8
pins: 1 AIN1 (in), 2 AIN 2 (in), 3 N.C., 4 REF (power), 5 SCL (oc), 6 SDA (oc), 7 GND (power), 8 VCC (power)

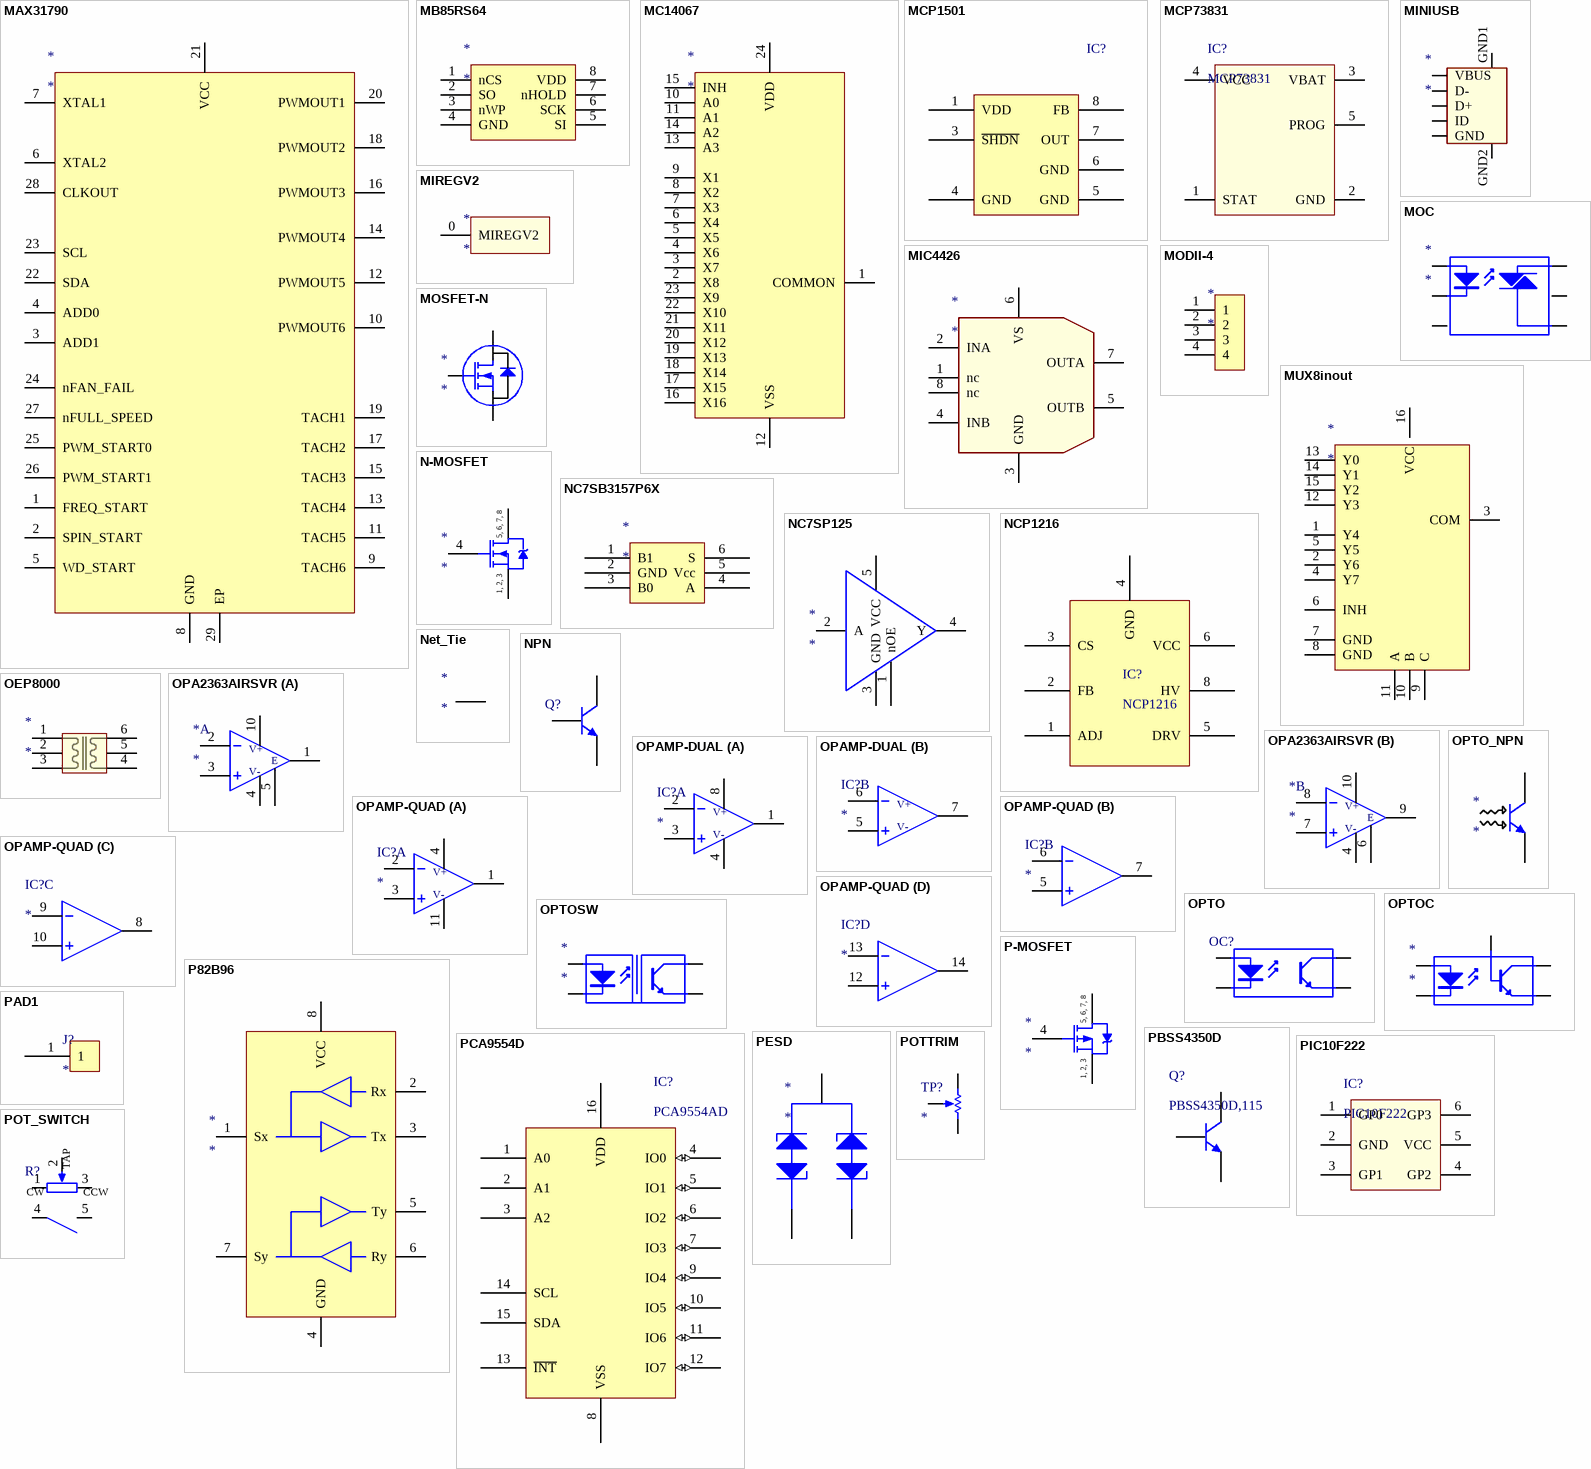
[diagram p6: symbols MAX31790 to POTTRIM]

## MAX31790
designator *
footprint TQFN-28
pins: 1 FREQ_START, 2 SPIN_START, 3 ADD1, 4 ADD0, 5 WD_START, 6 XTAL2, 7 XTAL1, 8 GND, 9 TACH6, 10 PWMOUT6, 11 TACH5, 12 PWMOUT5, 13 TACH4, 14 PWMOUT4, 15 TACH3, 16 PWMOUT3, 17 TACH2, 18 PWMOUT2, 19 TACH1, 20 PWMOUT1, 21 VCC, 22 SDA, 23 SCL, 24 nFAN_FAIL, 25 PWM_START0, 26 PWM_START1, 27 nFULL_SPEED, 28 CLKOUT, 29 EP

## MB85RS64
designator *
footprint SOIC127P600X155-8N (SOIC, 8-Leads, Body 5,1x3,9mm (max), Pitch 1,27mm, IPC Medium Density)
pins: 1 nCS, 2 SO, 3 nWP, 4 GND, 5 SI, 6 SCK, 7 nHOLD, 8 VDD

## MC14067
designator *
footprint SOIC-24N (SOIC, 24-Leads, Body 15,5x7,6mm (max), Pitch 1,27mm, IPC Medium Density)
pins: 1 COMMON, 2 X8, 3 X7, 4 X6, 5 X5, 6 X4, 7 X3, 8 X2, 9 X1, 10 A0, 11 A1, 12 VSS, 13 A3, 14 A2, 15 INH, 16 X16, 17 X15, 18 X14, 19 X13, 20 X12, 21 X11, 22 X10, 23 X9, 24 VDD

## MCP1501
designator IC?
Voltage Reference Series - Fixed, 2.048V reference, ± 10ppm/°C, NSOIC-8; manufacturer: MICROCHIP; propertis: Voltage Reference Series - Fixed, 2.048V reference, ± 10ppm/°C, NSOIC-8
footprint SO8
pins: 1 VDD (power), 3 ~{SHDN} (power), 4 GND (power), 5 GND (power), 6 GND (power), 7 OUT (power), 8 FB (power)

## MCP73831
designator IC?
BATTERY CHARGER, LI-ION/LI-POLYMER, 5-SOT-23; value: MCP73831; partnumber: *; properties: BATTERY CHARGER, LI-ION/LI-POLYMER, 5-SOT-23; manufacturer: *; farnellCode: *
footprint SOT23-5
pins: 1 STAT, 2 GND, 3 VBAT, 4 VCC, 5 PROG

## MIC4426
designator *
footprint SO8
pins: 1 nc, 2 INA, 3 GND, 4 INB, 5 OUTB, 6 VS, 7 OUTA, 8 nc

## MINIUSB
designator *
footprint USBMINI_VERT
pins: D+, D-, GND (power), GND1, GND2, ID, VBUS (power)

## MIREGV2
designator *
footprint MIREGV2
pins: 0 MIREGV2

## MOC
designator *
footprint PDIP-6
pins: 1 "Anode", 2 "Cathode", 3 "Cathode", 4 "Emitter", 5 "Cathode", 6 4 "Collector"

## MODII-4
designator *
footprint MODII-4
pins: 1, 2, 3, 4

## MOSFET-N
designator *
footprint D2PAK-7Pin (Mosfet)
pins: 1 G, 2 S, 3 D

## MUX8inout
designator *
footprint SO16
pins: 1 Y4, 2 Y6, 3 COM, 4 Y7, 5 Y5, 6 INH, 7 GND, 8 GND, 9 C, 10 B, 11 A, 12 Y3, 13 Y0, 14 Y1, 15 Y2, 16 VCC

## N-MOSFET
designator *
footprint SO8
pins: 1 S, 2 S, 3 S, 4 G, 5 D, 6 D, 7 D, 8 D
text: 5, 6, 7, 8; 1, 2, 3

## NC7SB3157P6X
designator *
footprint SC70
pins: 1 B1, 2 GND, 3 B0, 4 A, 5 Vcc, 6 S

## NC7SP125
designator *
footprint SC70-5
pins: 1 nOE, 2 A, 3 GND, 4 Y, 5 VCC

## NCP1216
designator IC?
partnumber: NCP1216D65R2G; manufacturer: ON SEMICONDUCTOR; propertis: PWM Controller, 16V supply, 65 kHz, 500mA out; value: NCP1216
footprint SOIC8_N (8-Pin Small Outline Integrated Circuit Package (SOIC8), IPC Medium Density)
pins: 1 ADJ, 2 FB, 3 CS, 4 GND (power), 5 DRV, 6 VCC (power), 8 HV

## Net_Tie
designator *
footprint Net_Tie
pins: 1, 2

## NPN
designator Q?
Generic NPN Transistor
footprint TO-225
footprint SOT23-6; pin to pad 1>4 2>1+2+5+6
pins: 1 E, 2 C, 3 B

## OEP8000
designator *
footprint OEP8000
pins: 1, 2, 3, 4, 5, 6

## OPA2363AIRSVR
designator *
footprint MSOP10
part A pins: 1, 2 -, 3 +, 4 V-, 5 E, 10 V+
part B pins: 4 V-, 6 E, 7 +, 8 -, 9, 10 V+

## OPAMP-DUAL
designator IC?
partnumber: *; properties: *; manufacturer: *; value: *; farnellCode: *
footprint SO8
footprint MSOP8
part A pins: 1, 2 -, 3 +, 4 V-, 8 V+
part B pins: 5 +, 6 -, 7

## OPAMP-QUAD
designator IC?
Generic Quad OPAMP; partnumber: *; properties: *; manufacturer: *; value: *; farnellCode: *
footprint SOIC14_N (14-Pin Small Outline Integrated Circuit 1.27 mm Pitch, IPC Medium Density)
part A pins: 1, 2 -, 3 +, 4 V+, 11 V-
part B pins: 5 +, 6 -, 7
part C pins: 8, 9 -, 10 +
part D pins: 12 +, 13 -, 14

## OPTO
designator OC?
footprint PC367 (Optocoupler)
pins: 1 "Anode", 2 "Cathode", 3 "Emitter", 4 "Collector"

## OPTO_NPN
designator *
footprint PhotoTransistor (PhotoTransistor, 2-Leads, Body 1,7x0,8mm, IPC Medium Density)
pins: 1 C, 2 E

## OPTOC
designator *
footprint SOP6
footprint S-DIP6
pins: 1 "Anode", 2 "Cathode", 4 "Emitter", 5 "Collector", 6 "Base"

## OPTOSW
designator *
footprint EESX129
pins: 1 "Anode", 2 "Collector", 3 "Emitter", 4 "Cathode"

## P82B96
designator *
footprint SO8
pins: 1 Sx, 2 Rx, 3 Tx, 4 GND, 5 Ty, 6 Ry, 7 Sy, 8 VCC

## P-MOSFET
designator *
footprint SO8
pins: 1 S, 2 S, 3 S, 4 G, 5 D, 6 D, 7 D, 8 D
text: 5, 6, 7, 8; 1, 2, 3

## PAD1
designator J?  (no BOM)
footprint PAD_1
footprint PAD_0.8MM
pins: 1

## PBSS4350D
designator Q?, comment PBSS4350D,115
manufacturer: NEXPERIA; properties: Bipolar (BJT) Single Transistor, General Purpose, NPN, 50 V, 600 mW, 3 A, 200 hFE; value: PBSS4350D,115; partnumber: PBSS4350D,115; farnellCode: 8736316
footprint SOT23-6
pins: 1 C, 2 C, 3 B, 4 E, 5 C, 6 C

## PCA9554D
designator IC?, comment PCA9554AD
8-Bit I2C I/O Expander; partnumber: PCA9554AD,112; manufacturer: NXP; propertis: I/O Expander, 8bit, 400 kHz, I2C, SMBus, 2.3 V, 5.5 V, SOIC; value: PCA9554AD
footprint SOIC16 (SOIC, 16-Leads, Body 10,5x7,6mm (max), Pitch 1,27mm, IPC Medium Density)
pins: 1 A0, 2 A1, 3 A2, 4 IO0 (io), 5 IO1 (io), 6 IO2 (io), 7 IO3 (io), 8 VSS (power), 9 IO4 (io), 10 IO5 (io), 11 IO6 (io), 12 IO7 (io), 13 ~{INT} (oc), 14 SCL (oc), 15 SDA (oc), 16 VDD (power)

## PESD
designator *
footprint SOT-23
pins: 1, 2, 3

## PIC10F222
designator IC?
8-bit microcontroller; value: PIC10F222; partnumber: *; properties: *; manufacturer: *; farnellCode: *
pins: 1 GP0, 2 GND, 3 GP1, 4 GP2, 5 VCC, 6 GP3

## POT_SWITCH
designator R?
properties: resistor; farnellCode: *
footprint POT_SWITCH
pins: 1 CW, 2 TAP, 3 CCW, 4 SW1, 5 SW2

## POTTRIM
designator TP?
footprint TRIMMG (TrimerPot)
footprint TRIMMG (TrimerPot)
pins: 1 TOP, 2 BOT, 3 TAP

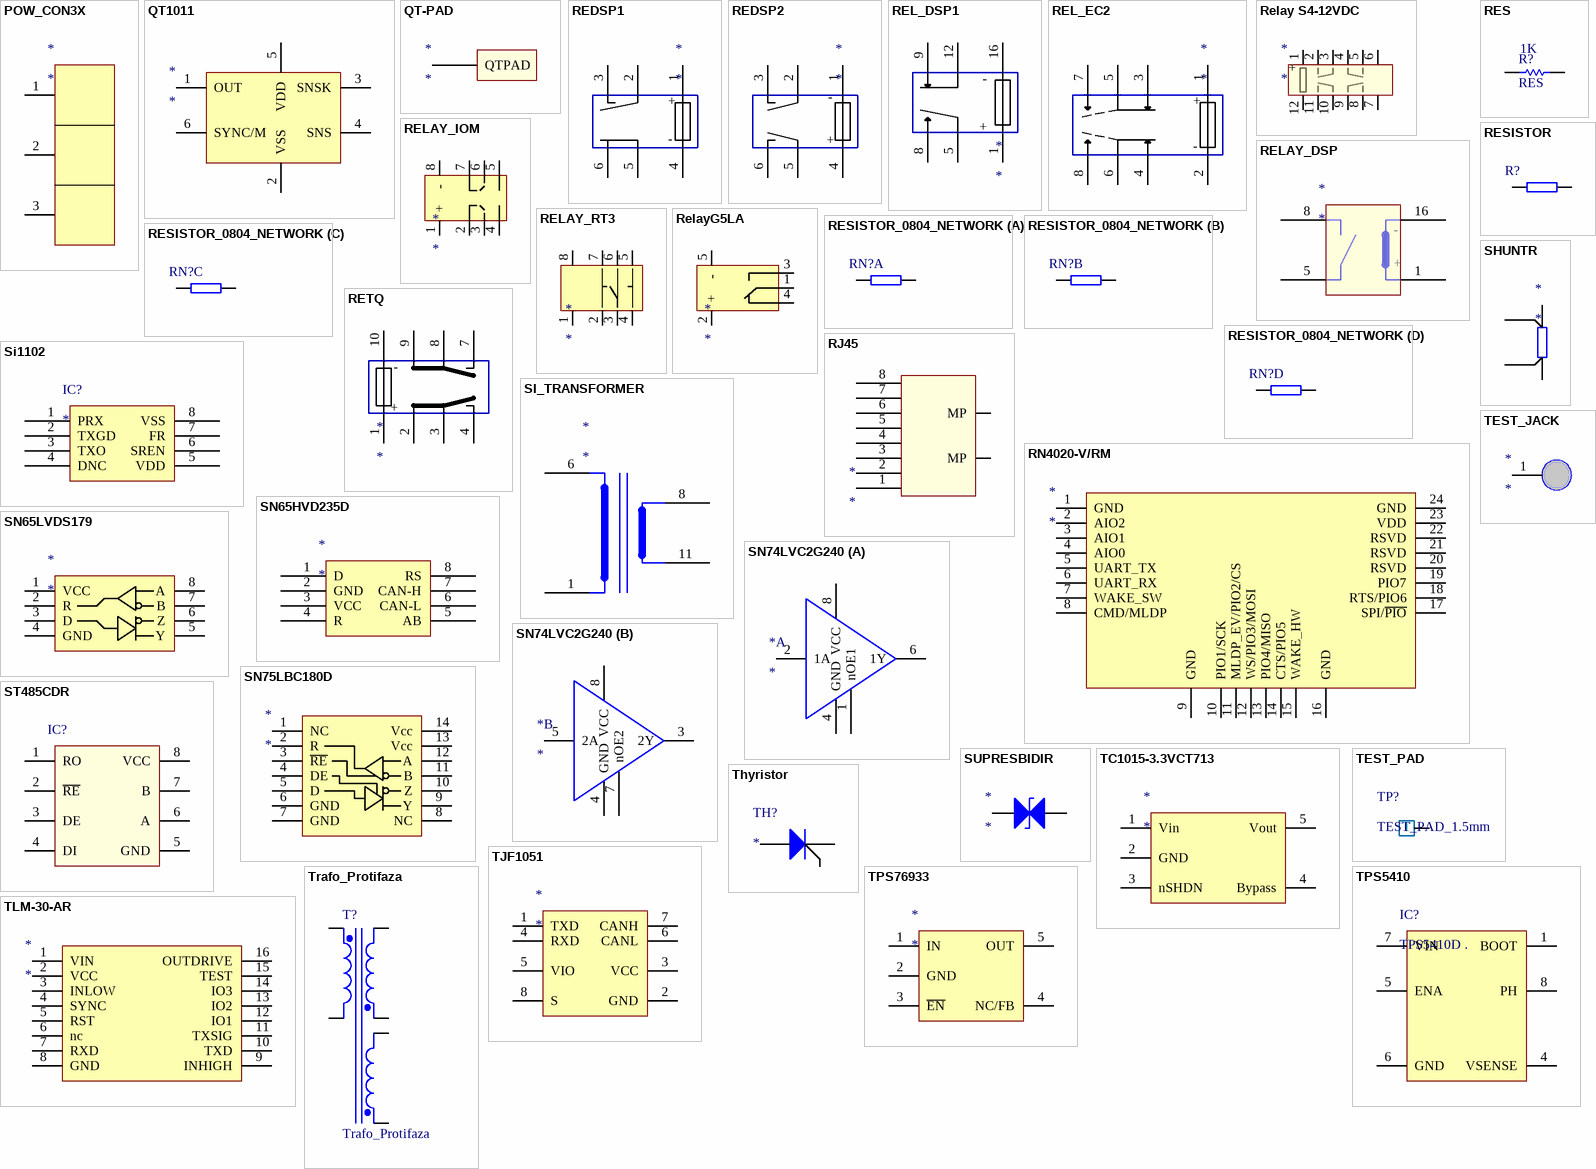
[diagram p7: symbols POW_CON3X to Trafo_Protifaza]

## POW_CON3X
designator *
footprint SR_BTS-3
pins: 1, 2, 3

## QT1011
designator *
footprint SOT23-6
pins: 1 OUT, 2 VSS, 3 SNSK, 4 SNS, 5 VDD, 6 SYNC/M

## QT-PAD
designator *
footprint QTPAD
pins: 1 QTPAD

## REDSP1
designator *
footprint REL DSP2a-DC3V
pins: 1, 2, 3, 4, 5, 6
text: +; -

## REDSP2
designator *
footprint REL DSP2a-DC3V
pins: 1, 2, 3, 4, 5, 6
text: -; +

## REL_DSP1
designator *
footprint DSP1_RELAY
pins: 1 +, 5, 8, 9, 12, 16 -

## REL_EC2
designator *
footprint REL_ECC2
pins: 1 +, 2 -, 3, 4, 5, 6, 7, 8

## Relay S4-12VDC
designator *
footprint RelayS4
pins: 1, 2, 3, 4, 5, 6, 7, 8, 9, 10, 11, 12
text: +

## RELAY_DSP
designator *
footprint RELAY_DSP (Relay)
pins: 1, 5, 8, 16
text: -; +

## RELAY_IOM
designator *
footprint Model Name (Footprint not found)
footprint RELAY_IOM
pins: 1 +, 2, 3, 4, 5, 6, 7, 8 -

## RELAY_RT3
designator *
footprint RELAY_RT3
pins: 1, 2, 3, 4, 5, 6, 7, 8

## RelayG5LA
designator *
footprint RelayG5LA
pins: 1, 2 +, 3, 4, 5 -

## RES
designator R?  value 1K
Resistor; Published: 8-Jun-2000; LatestRevisionDate: 17-Jul-2002; LatestRevisionNote: Re-released for DXP Platform.; PackageReference: AXIAL-0.3; Publisher: Altium Limited
simulation model RESISTOR (Resistor)
signal-integrity model Res
footprint SMD_RC0402
footprint SMD_RC0603
footprint SMD_RC0805
footprint SMD_RC1206
footprint RESV-6MM
footprint SMD_RC2512
pins: 1, 2

## RESISTOR
designator R?
properties: resistor; farnellCode: *
footprint RESV-6MM
footprint SMD_RC0402
footprint SMD_RC0603
footprint SMD_RC0805
footprint SMD_RC1206
footprint SMD_RC1210
footprint NTC_4.8x0.8
footprint AXIAL15.5
footprint SMD_RC2512
footprint RESEXT
footprint RES4122
pins: 1, 2

## RESISTOR_0804_NETWORK
designator RN?
0804 Resistor network
footprint SMD_RC0804_NETWORK (0804 [2010 Metric] Resistor Network)
part A pins: 1, 8
part B pins: 2, 7
part C pins: 3, 6
part D pins: 4, 5

## RETQ
designator *
footprint RELTQ (Relay TQ Series)
pins: 1, 2, 3, 4, 5 hidden, 6 hidden, 7, 8, 9, 10
text: -; +

## RJ45
designator *
footprint RJ45VSMD
footprint RJ45VERT
pins: 1, 2, 3, 4, 5, 6, 7, 8, 9 MP, 10 MP

## RN4020-V/RM
designator *
footprint RN4020
pins: 1 GND, 2 AIO2, 3 AIO1, 4 AIO0, 5 UART_TX, 6 UART_RX, 7 WAKE_SW, 8 CMD/MLDP, 9 GND, 10 PIO1/SCK, 11 MLDP_EV/PIO2/CS, 12 WS/PIO3/MOSI, 13 PIO4/MISO, 14 CTS/PIO5, 15 WAKE_HW, 16 GND, 17 SPI/~{PIO}, 18 RTS/PIO6, 19 PIO7, 20 RSVD, 21 RSVD, 22 RSVD, 23 VDD, 24 GND

## SHUNTR
designator *
footprint SHUNT-2726
pins: 1, 2, 3, 4

## Si1102
designator IC?
footprint ODFN-8
pins: 1 PRX, 2 TXGD, 3 TXO, 4 DNC, 5 VDD, 6 SREN, 7 FR, 8 VSS

## SI_TRANSFORMER
designator *
footprint TRANSF10VA
footprint TREI16_44302
pins: 1, 6, 8, 11

## SN65HVD235D
designator *
footprint SO8
pins: 1 D, 2 GND, 3 VCC, 4 R, 5 AB, 6 CAN-L, 7 CAN-H, 8 RS

## SN65LVDS179
designator *
footprint SO8
pins: 1 VCC, 2 R, 3 D, 4 GND, 5 Y, 6 Z, 7 B, 8 A

## SN74LVC2G240
designator *
footprint VSSOP-8
part A pins: 1 nOE1, 2 1A, 4 GND, 6 1Y, 8 VCC
part B pins: 3 2Y, 4 GND, 5 2A, 7 nOE2, 8 VCC

## SN75LBC180D
designator *
footprint TSSOP16
pins: 1 NC, 2 R, 3 ~{RE}, 4 DE, 5 D, 6 GND, 7 GND, 8 NC, 9 Y, 10 Z, 11 B, 12 A, 13 Vcc, 14 Vcc

## ST485CDR
designator IC?
Transceiver RS422/RS485 Driver, 4.75V-5.25V supply, SOIC-8; partnumber: *; properties: Transceiver RS422/RS485 Driver, 4.75V-5.25V supply, SOIC-8; manufacturer: *
footprint SO8
pins: 1 RO, 2 ~{RE}, 3 DE, 4 DI, 5 GND, 6 A, 7 B, 8 VCC

## SUPRESBIDIR
designator *
footprint DO-214AC - duplicate (JEDEC DO214 variation AC. SMA)
pins: 1, 2

## TC1015-3.3VCT713
designator *
footprint SOT23-5
pins: 1 Vin, 2 GND, 3 nSHDN, 4 Bypass, 5 Vout

## TEST_JACK
designator *
footprint TEST_JACK
pins: 1

## TEST_PAD
designator TP?, comment TEST_PAD_1.5mm
value: TEST_PAD_1.5mm
footprint TEST_PAD_1.5mm
footprint TEST_PAD_1mm
pins: 1
text: T

## Thyristor
designator TH?
Thyristor; value: *; partnumber: *; properties: *; manufacturer: *; farnellCode: *
footprint SOT-223 (SOT223, 4-Leads, Body 6.5x3.5mm, Pitch 2.3mm, Lead Span 7mm, IPC Medium Density)
pins: 1, 2, 3, 4

## TJF1051
designator *
footprint SO8
pins: 1 TXD, 2 GND, 3 VCC, 4 RXD, 5 VIO, 6 CANL, 7 CANH, 8 S

## TLM-30-AR
designator *
footprint TLM-30
pins: 1 VIN, 2 VCC, 3 INLOW, 4 SYNC, 5 RST, 6 nc, 7 RXD, 8 GND, 9 INHIGH, 10 TXD, 11 TXSIG, 12 IO1, 13 IO2, 14 IO3, 15 TEST, 16 OUTDRIVE

## TPS5410
designator IC?, comment TPS5410D .
DC-DC Switching Buck (Step Down) Regulator, Adjustable, 5.5V-36Vin, 1.22V-31Vout, 1Aout, SOIC-8; manufacturer: TEXAS INSTRUMENTS; value: TPS5410D .; properties: DC-DC Switching Buck (Step Down) Regulator, Adjustable, 5.5V-36Vin, 1.22V-31Vout, 1Aout, SOIC-8; partnumber: TPS5410D .; farnellCode: *
footprint SO8
pins: 1 BOOT, 4 VSENSE, 5 ENA, 6 GND, 7 VIN, 8 PH

## TPS76933
designator *
footprint SOT23-5
pins: 1 IN, 2 GND, 3 ~{EN}, 4 NC/FB, 5 OUT

## Trafo_Protifaza
designator T?
Tri navitja, sekundar v protifazi
footprint TRF_6 (Transformer; 6 Leads)
simulation model NI3WTRANS (Spice Subcircuit)
pins: 1 Pri+, 2 Pri-, 3 Sec1+, 4 Sec1-, 5 Sec2+, 6 Sec2-

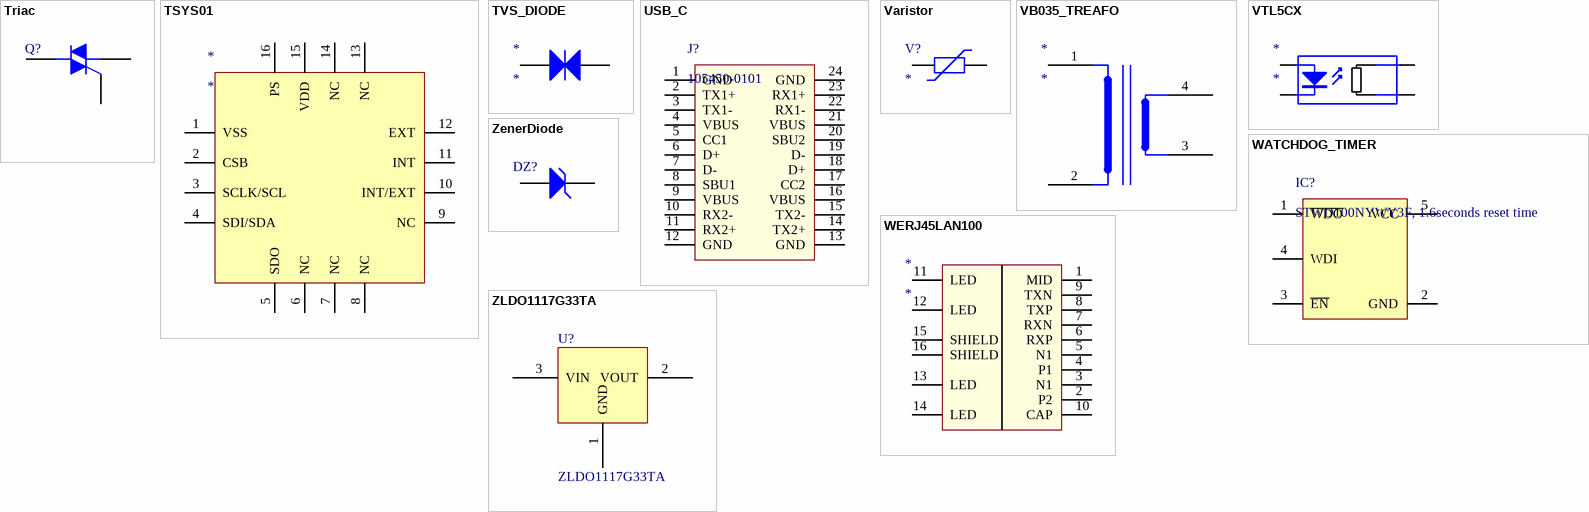
[diagram p8: symbols Triac to ZLDO1117G33TA]

## Triac
designator Q?
Silicon Bidirectional Triode Thyristor; Note: Pin 2 is electrically connected to Pin 4 (TAB); Published: 29-Sep-2000; LatestRevisionDate: 17-Jul-2002; LatestRevisionNote: Re-released for DXP Platform.; DatasheetVersion: 1999; PackageReference: 369-03; Publisher: Altium Limited; Code_JEDEC: TO-251-AA; ComponentLink1Description: Manufacturer Link; ComponentLink1URL: http://www.motorola.com/
footprint SFM-T3/A2.4V (TO, Thru-Hole, Vertical, Heatsink Mounted; 3 In-Line Leads; Pitch 2.28 mm)
simulation model MAC15A8 (Spice Subcircuit)
footprint TO-220AB
pins: 1 M1, 2 M2, 3 G

## TSYS01
designator *
footprint QFN-16X065
pins: 1 VSS, 2 CSB, 3 SCLK/SCL, 4 SDI/SDA, 5 SDO, 6 NC, 7 NC, 8 NC, 9 NC, 10 INT/EXT, 11 INT, 12 EXT, 13 NC, 14 NC, 15 VDD, 16 PS

## TVS_DIODE
designator *
footprint AXIAL-0.5
pins: 1, 2

## USB_C
designator J?, comment 105450-0101
manufacturer: MOLEX; properties: USB Connector, USB Type C, USB 3.1, Receptacle, 24 Ways, Surface Mount, Right Angle; value: 105450-0101; partnumber: 105450-0101; farnellCode: 2524076
footprint USB_C
pins: 1 GND, 2 TX1+, 3 TX1-, 4 VBUS, 5 CC1, 6 D+, 7 D-, 8 SBU1, 9 VBUS, 10 RX2-, 11 RX2+, 12 GND, 13 GND, 14 TX2+, 15 TX2-, 16 VBUS, 17 CC2, 18 D+, 19 D-, 20 SBU2, 21 VBUS, 22 RX1-, 23 RX1+, 24 GND

## Varistor
designator V?
value: *; partnumber: *; properties: *; manufacturer: *; farnellCode: *
footprint VDR (Varistor)
footprint VARISTOR-14
pins: 1, 2

## VB035_TREAFO
designator *
footprint TRVB_035
pins: 1, 2, 3, 4

## VTL5CX
designator *
footprint VTL5CX
pins: 1 - "Cathode", 2 + "Anode", 3 "Emitter", 4 "Collector"

## WATCHDOG_TIMER
designator IC?, comment STWD100NYWY3F, 1.6seconds reset time
Watchdog Timer, 2.7 V to 5.5 V Supply, 3.4 ms/6.3 ms/102 ms/1.6 s, Active-Low, Open-Drain, SOT-23-5; manufacturer: STMICROELECTRONICS; partnumber: STWD100NYWY3F; properties: Watchdog Timer, 2.7 V to 5.5 V Supply, 3.4 ms/6.3 ms/102 ms/1.6 s, Active-Low, Open-Drain, SOT-23-5; farnellCode: 2762720; value: STWD100NYWY3F, 1.6seconds reset time
footprint SOT23-5
pins: 1 ~{WDO}, 2 GND, 3 ~{EN}, 4 WDI, 5 VCC

## WERJ45LAN100
designator *
footprint WERJ45
pins: 1 MID, 2 P2, 3 N1, 4 P1, 5 N1, 6 RXP, 7 RXN, 8 TXP, 9 TXN, 10 CAP, 11 LED, 12 LED, 13 LED, 14 LED, 15 SHIELD, 16 SHIELD

## ZenerDiode
designator DZ?
farnellCode: *
footprint SOT-23
pins: 1 A, 3 K

## ZLDO1117G33TA
designator U?
footprint DPACK-2
footprint TO-252-3LDO (D-PAK/TO-252-AA; 3 Leads (1 Cropped); Body 10.3 (inc. leads) x 6.7 mm (LxW max))
pins: 1 GND, 2 VOUT, 3 VIN